# Altium schematic symbol library OOLITEV8_0_2-DEV-V1_1_17_Library.SchLib: 269 symbols (part 10 of 12)
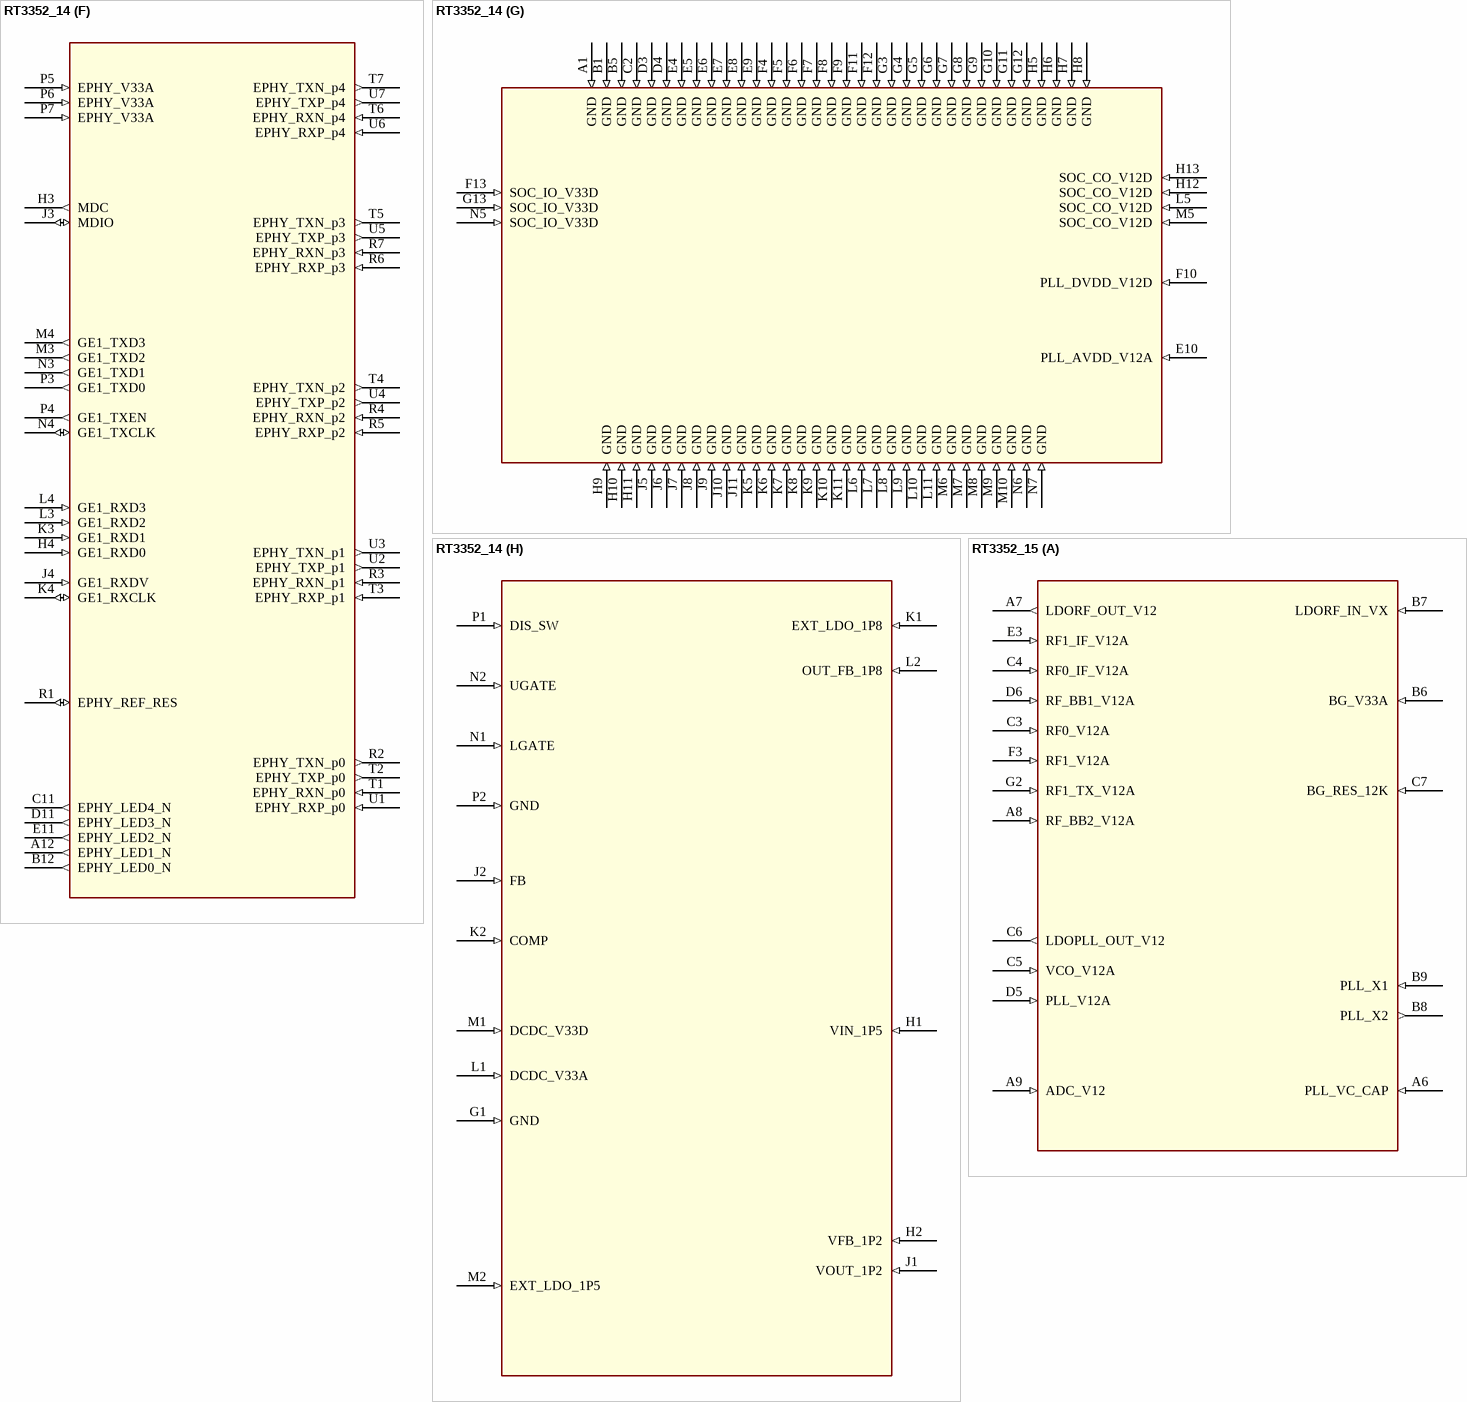
[diagram p147: symbols RT3352_14 to RT3352_15]

## RT3352_14
designator U?
part A pins: A6 PLL_VC_CAP (in), A7 LDORF_OUT_V12 (out), A8 RF_BB2_V12A (in), A9 ADC_V12 (in), B6 BG_V33A (in), B7 LDORF_IN_VX (in), B8 PLL_X2 (out), B9 PLL_X1 (in), C3 RF0_V12A (in), C4 RF0_IF_V12A (in), C5 VCO_V12A (in), C6 LDOPLL_OUT_V12 (out), C7 BG_RES_12K (in), D5 PLL_V12A (in), D6 RF_BB1_V12A (in), E3 RF1_IF_V12A (in), F3 RF1_V12A (in), G2 RF1_TX_V12A (in)
part B pins: A2 RF0_PA_OUTN (out), A3 RF0_PA_OUTP (out), A4 RF0_2G_INN (in), A5 RF0_2G_INP (in), A10 LNA_PE_G1 (out), A11 ANT_TRNB (out), B2 RF0_PA_V33N (in), B3 RF0_PA_V33P (in), B4 RF0_PA1_V33A (in), B10 LNA_PE_G0 (out), B11 ANT_TRN (out), C1 RF1_2G_INP (in), C8 BASE_TRX_IP (io), C9 BASE_TRX_IN (io), C10 PA_PE_G1 (out), D1 RF1_2G_INN (in), D2 RF1_PA_V33A (in), D7 RF_TSSI_IN (in), D8 BASE_TRX_QP (io), D9 BASE_TRX_QN (io), D10 PA_PE_G0 (out), D13 WLAN_LED_N (out), E1 RF1_PA_OUTP (out), E2 RF1_PA_V33P (in), F1 RF1_PA_OUTN (out), F2 RF1_PA_V33N (in)
part C pins: H15 MD0 (io), H16 MD1 (io), H17 MD2 (io), J12 DDR_IOC_V12D (in), J13 DDR_IOC_V12D (in), J14 MD3 (io), J15 MDQM0 (io), J16 MDQS0 (io), J17 MD6 (io), K12 DDR_IO_V33D (in), K13 DDR_IO_V33D (in), K14 MD8 (io), K15 MD7 (io), K16 MD5 (io), K17 MD4 (io), L12 DDR_IOL_V33D (in), L13 DDR_IOL_V33D (in), L14 MD13 (io), L15 MD10 (io), L16 MD11 (io), L17 MD9 (io), M11 DDR_IO_V33D (in), M12 DDR_IOR_V09D (in), M13 MD15 (io), M14 MD12 (io), M15 MD14 (io), M16 MDQS1 (io), M17 MDQM1 (io), N8 DDR_IO_V33D (in), N9 DDR_IO_V33D (in), N10 DDR_IO_V33D (in), N11 DDR_IO_V33D (in), N12 DDR_IOR_V09D (in), N13 MA0 (io), N14 MA3 (io), N15 MA8 (io), N16 MA10 (io), N17 MA13 (io), P8 MD31 (io), P9 MDQS3 (io), P10 MD22 (io), P11 MDQM2 (io), P12 MD16 (io), P13 MODT (io), P14 MA6 (io), P15 MA4 (io), P16 MA5 (io), P17 MA12 (io), R8 MD30 (io), R9 MD27 (io), R10 MD23 (io), R11 MDQS2 (io), R12 MD17 (io), R13 MCKE (io), R14 MCAS_N (io), R15 MA2 (io), R16 MA7 (io), R17 MA11 (io), T8 MD29 (io), T9 MDQM3 (io), T10 MD24 (io), T11 MD20 (io), T12 MD18 (io), T13 MCK_N (io), T14 MRAS_N (io), T15 MBA0 (io), T16 MA1 (io), T17 MA9 (io), U8 MD28 (io), U9 MD25 (io), U10 MD26 (io), U11 MD21 (io), U12 MD19 (io), U13 MCK_P (io), U14 MWE_N (io), U15 MBA1 (io), U16 MBA2 (io), U17 MCS_N (io)
part D pins: A13 JTAG_TMS (in), A14 SPI_MISO (in), A15 SPI_CS0 (out), A16 TXD (out), A17 RTS_N (out), B13 JTAG_TCLK (in), B14 SPI_MOSI (out), B15 SPI_CLK (out), B16 DTR_N (out), B17 DCD_N (io), C12 GPIO0 (io), C13 JTAG_TRST_N (in), C14 SPI_CS1 (out), C15 DSR_N (io), C16 CTS_N (io), D12 JTAG_TDO (out), D14 RIN (io), D15 RXD (io), E12 JTAG_TDI (in), E13 PORST_N (in), G15 RXD2 (in), G16 TXD2 (out), G17 I2C_SCLK (io), H14 I2C_SD (out)
part E pins: C17 UPHY1_PADP (io), D16 UPHY1_ID (io), D17 UPHY1_PADM (io), E14 UPHY_VDDL_V12D (in), E15 UPHY1_VBUS (io), E16 UPHY1_VRES (io), E17 UPHY0_PADP (io), F14 UPHY_VDDA_V33A (in), F15 UPHY0_VBUS (io), F16 UPHY0_VRES (io), F17 UPHY0_PADM (io), G14 UPHY0_ID (io)
part F pins: A12 EPHY_LED1_N (out), B12 EPHY_LED0_N (out), C11 EPHY_LED4_N (out), D11 EPHY_LED3_N (out), E11 EPHY_LED2_N (out), H3 MDC (out), H4 GE1_RXD0 (in), J3 MDIO (io), J4 GE1_RXDV (in), K3 GE1_RXD1 (in), K4 GE1_RXCLK (io), L3 GE1_RXD2 (in), L4 GE1_RXD3 (in), M3 GE1_TXD2 (out), M4 GE1_TXD3 (out), N3 GE1_TXD1 (out), N4 GE1_TXCLK (io), P3 GE1_TXD0 (out), P4 GE1_TXEN (out), P5 EPHY_V33A (in), P6 EPHY_V33A (in), P7 EPHY_V33A (in), R1 EPHY_REF_RES (io), R2 EPHY_TXN_p0 (out), R3 EPHY_RXN_p1 (in), R4 EPHY_RXN_p2 (in), R5 EPHY_RXP_p2 (in), R6 EPHY_RXP_p3 (in), R7 EPHY_RXN_p3 (in), T1 EPHY_RXN_p0 (in), T2 EPHY_TXP_p0 (out), T3 EPHY_RXP_p1 (in), T4 EPHY_TXN_p2 (out), T5 EPHY_TXN_p3 (out), T6 EPHY_RXN_p4 (in), T7 EPHY_TXN_p4 (out), U1 EPHY_RXP_p0 (in), U2 EPHY_TXP_p1 (out), U3 EPHY_TXN_p1 (out), U4 EPHY_TXP_p2 (out), U5 EPHY_TXP_p3 (out), U6 EPHY_RXP_p4 (in), U7 EPHY_TXP_p4 (out)
part G pins: A1 GND (in), B1 GND (in), B5 GND (in), C2 GND (in), D3 GND (in), D4 GND (in), E4 GND (in), E5 GND (in), E6 GND (in), E7 GND (in), E8 GND (in), E9 GND (in), E10 PLL_AVDD_V12A (in), F4 GND (in), F5 GND (in), F6 GND (in), F7 GND (in), F8 GND (in), F9 GND (in), F10 PLL_DVDD_V12D (in), F11 GND (in), F12 GND (in), F13 SOC_IO_V33D (in), G3 GND (in), G4 GND (in), G5 GND (in), G6 GND (in), G7 GND (in), G8 GND (in), G9 GND (in), G10 GND (in), G11 GND (in), G12 GND (in), G13 SOC_IO_V33D (in), H5 GND (in), H6 GND (in), H7 GND (in), H8 GND (in), H9 GND (in), H10 GND (in), H11 GND (in), H12 SOC_CO_V12D (in), H13 SOC_CO_V12D (in), J5 GND (in), J6 GND (in), J7 GND (in), J8 GND (in), J9 GND (in), J10 GND (in), J11 GND (in), K5 GND (in), K6 GND (in), K7 GND (in), K8 GND (in), K9 GND (in), K10 GND (in), K11 GND (in), L5 SOC_CO_V12D (in), L6 GND (in), L7 GND (in), L8 GND (in), L9 GND (in), L10 GND (in), L11 GND (in), M5 SOC_CO_V12D (in), M6 GND (in), M7 GND (in), M8 GND (in), M9 GND (in), M10 GND (in), N5 SOC_IO_V33D (in), N6 GND (in), N7 GND (in)
part H pins: G1 GND (in), H1 VIN_1P5 (in), H2 VFB_1P2 (in), J1 VOUT_1P2 (in), J2 FB (in), K1 EXT_LDO_1P8 (in), K2 COMP (in), L1 DCDC_V33A (in), L2 OUT_FB_1P8 (in), M1 DCDC_V33D (in), M2 EXT_LDO_1P5 (in), N1 LGATE (in), N2 UGATE (in), P1 DIS_SW (in), P2 GND (in)

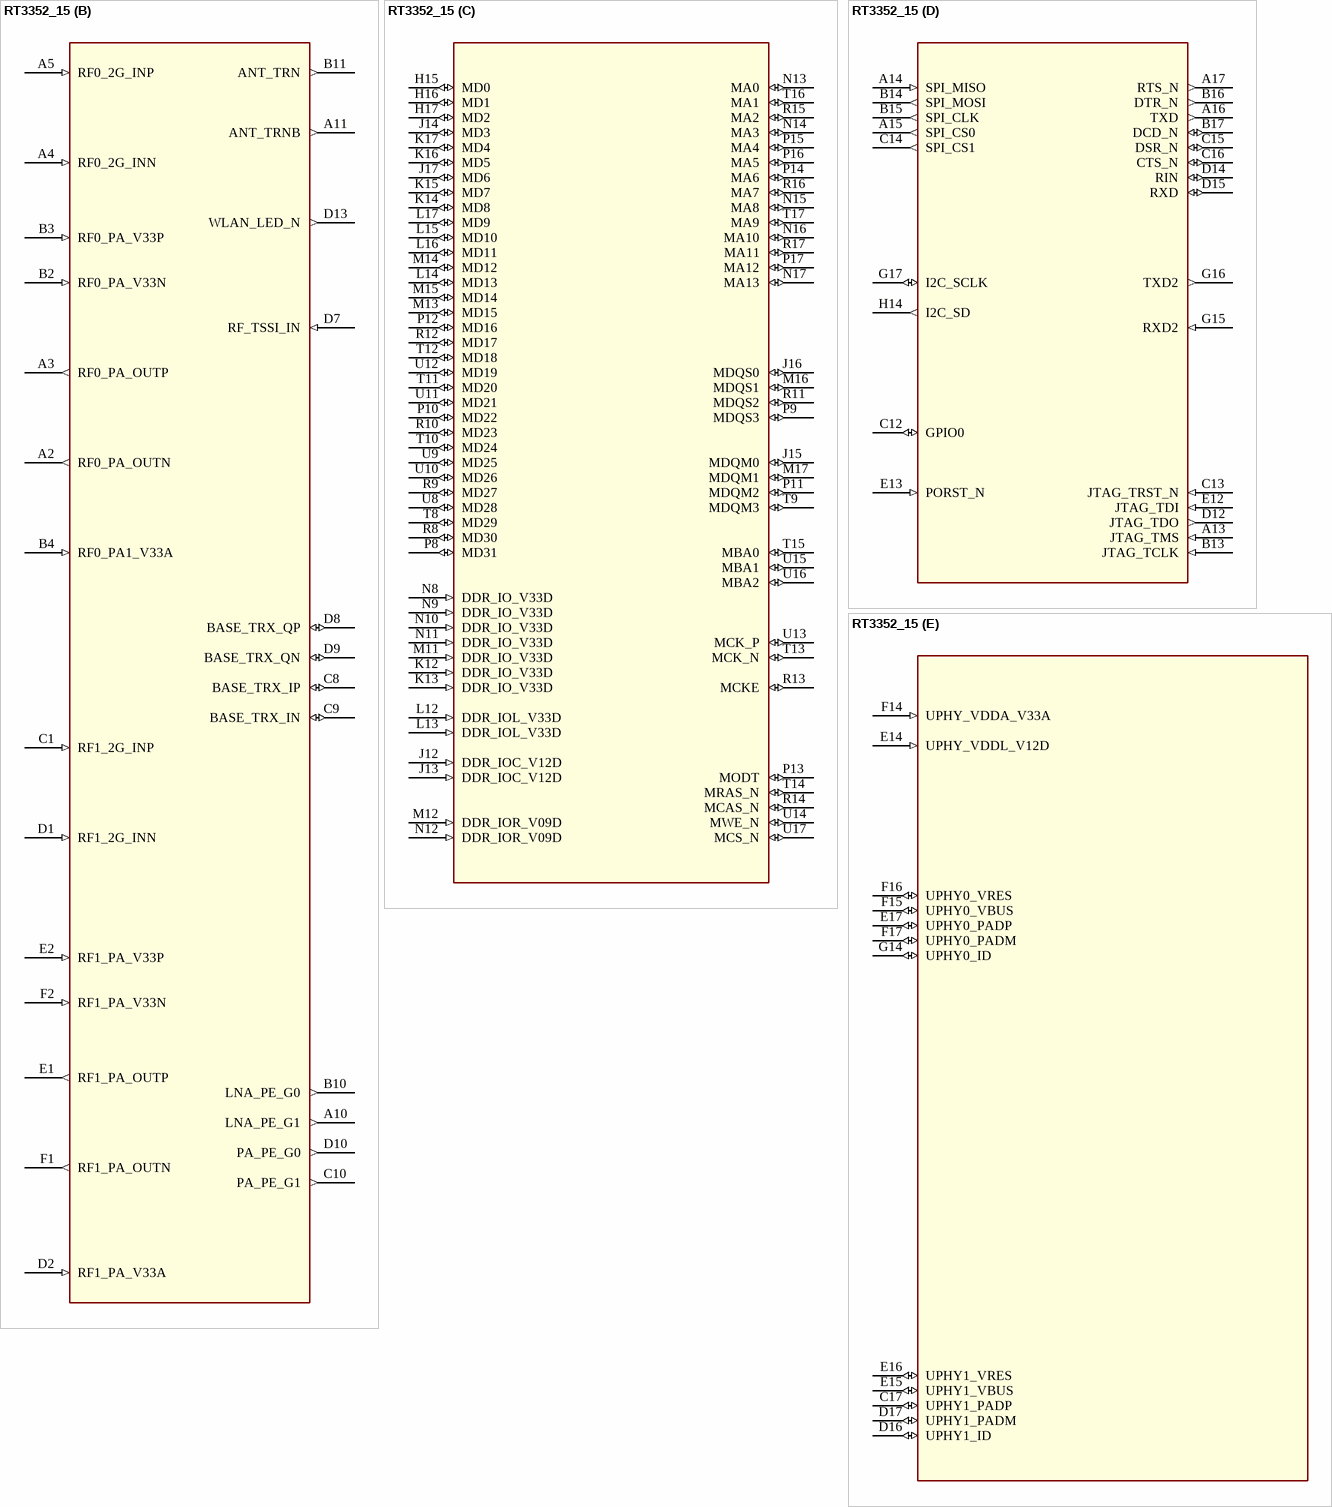
[diagram p112: symbol RT3352_15]

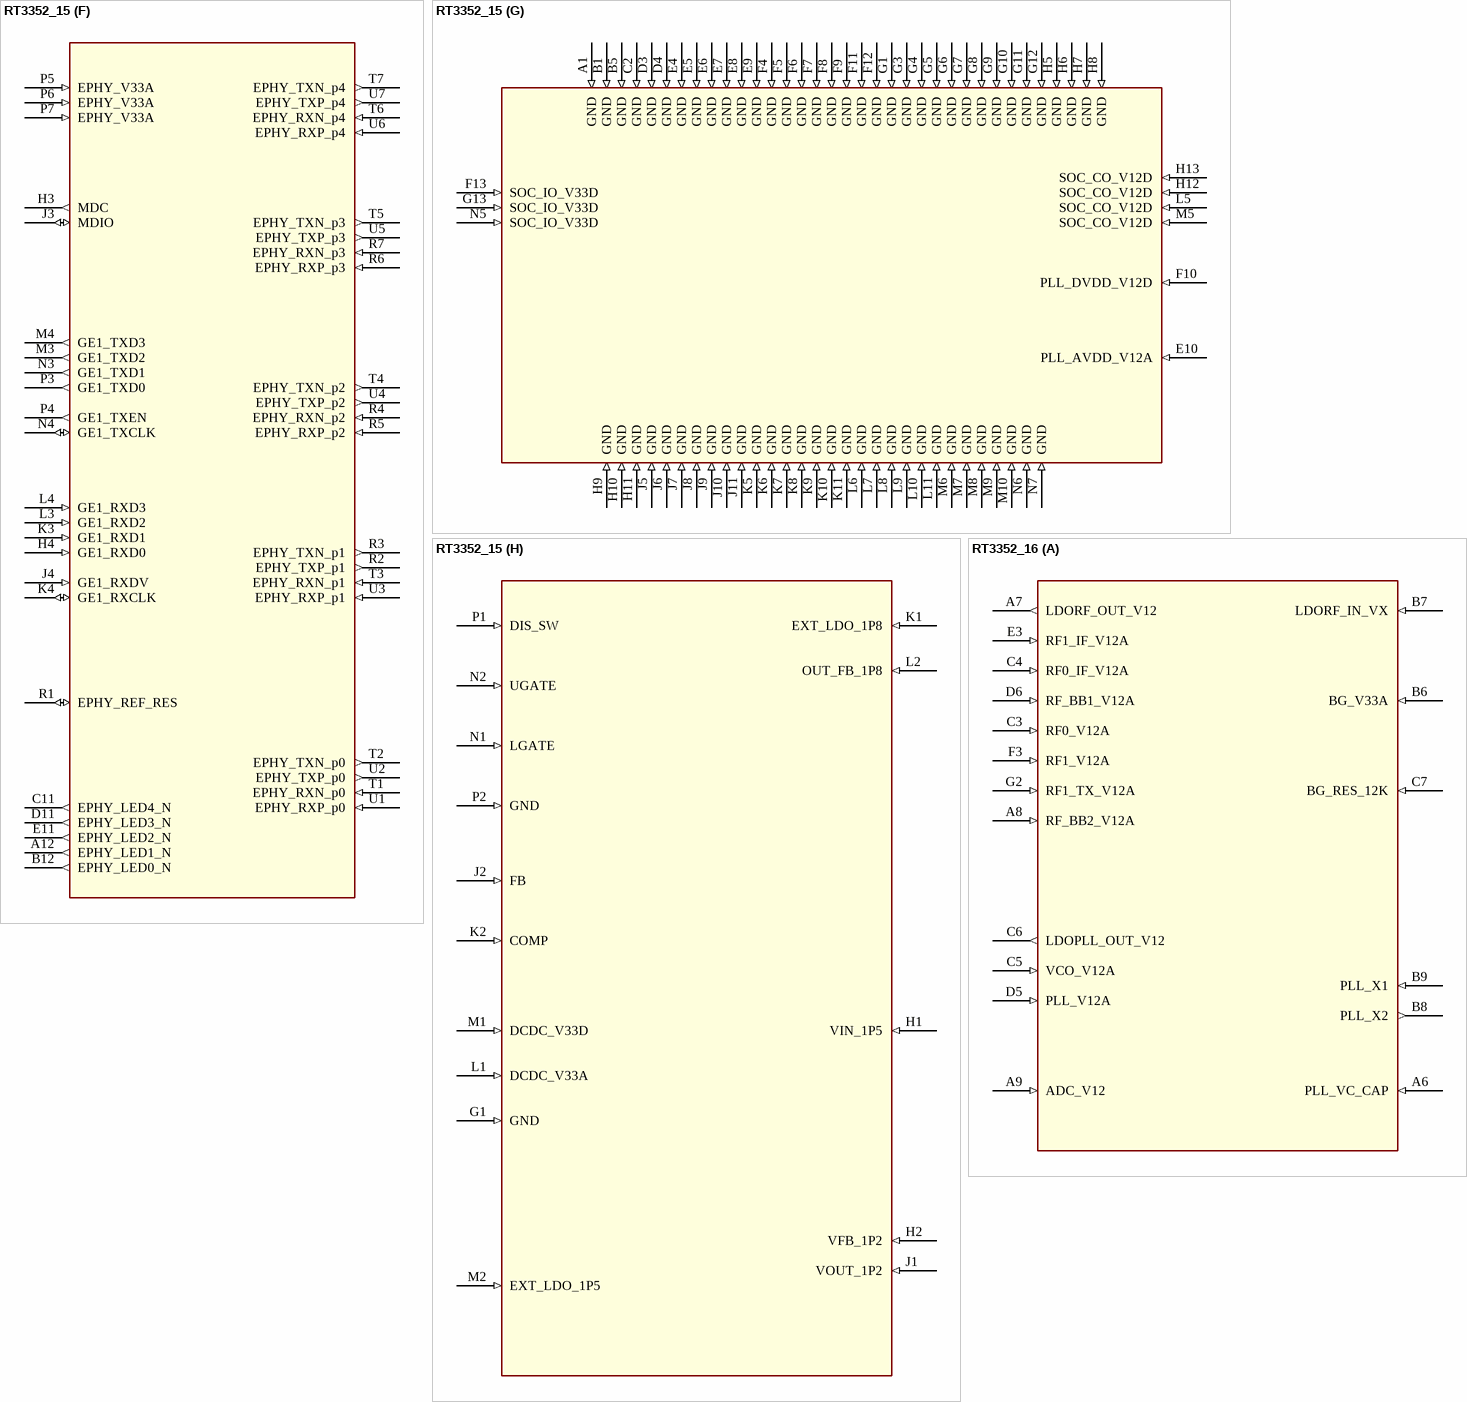
[diagram p113: symbols RT3352_15 to RT3352_16]

## RT3352_15
designator U?
part A pins: A6 PLL_VC_CAP (in), A7 LDORF_OUT_V12 (out), A8 RF_BB2_V12A (in), A9 ADC_V12 (in), B6 BG_V33A (in), B7 LDORF_IN_VX (in), B8 PLL_X2 (out), B9 PLL_X1 (in), C3 RF0_V12A (in), C4 RF0_IF_V12A (in), C5 VCO_V12A (in), C6 LDOPLL_OUT_V12 (out), C7 BG_RES_12K (in), D5 PLL_V12A (in), D6 RF_BB1_V12A (in), E3 RF1_IF_V12A (in), F3 RF1_V12A (in), G2 RF1_TX_V12A (in)
part B pins: A2 RF0_PA_OUTN (out), A3 RF0_PA_OUTP (out), A4 RF0_2G_INN (in), A5 RF0_2G_INP (in), A10 LNA_PE_G1 (out), A11 ANT_TRNB (out), B2 RF0_PA_V33N (in), B3 RF0_PA_V33P (in), B4 RF0_PA1_V33A (in), B10 LNA_PE_G0 (out), B11 ANT_TRN (out), C1 RF1_2G_INP (in), C8 BASE_TRX_IP (io), C9 BASE_TRX_IN (io), C10 PA_PE_G1 (out), D1 RF1_2G_INN (in), D2 RF1_PA_V33A (in), D7 RF_TSSI_IN (in), D8 BASE_TRX_QP (io), D9 BASE_TRX_QN (io), D10 PA_PE_G0 (out), D13 WLAN_LED_N (out), E1 RF1_PA_OUTP (out), E2 RF1_PA_V33P (in), F1 RF1_PA_OUTN (out), F2 RF1_PA_V33N (in)
part C pins: H15 MD0 (io), H16 MD1 (io), H17 MD2 (io), J12 DDR_IOC_V12D (in), J13 DDR_IOC_V12D (in), J14 MD3 (io), J15 MDQM0 (io), J16 MDQS0 (io), J17 MD6 (io), K12 DDR_IO_V33D (in), K13 DDR_IO_V33D (in), K14 MD8 (io), K15 MD7 (io), K16 MD5 (io), K17 MD4 (io), L12 DDR_IOL_V33D (in), L13 DDR_IOL_V33D (in), L14 MD13 (io), L15 MD10 (io), L16 MD11 (io), L17 MD9 (io), M11 DDR_IO_V33D (in), M12 DDR_IOR_V09D (in), M13 MD15 (io), M14 MD12 (io), M15 MD14 (io), M16 MDQS1 (io), M17 MDQM1 (io), N8 DDR_IO_V33D (in), N9 DDR_IO_V33D (in), N10 DDR_IO_V33D (in), N11 DDR_IO_V33D (in), N12 DDR_IOR_V09D (in), N13 MA0 (io), N14 MA3 (io), N15 MA8 (io), N16 MA10 (io), N17 MA13 (io), P8 MD31 (io), P9 MDQS3 (io), P10 MD22 (io), P11 MDQM2 (io), P12 MD16 (io), P13 MODT (io), P14 MA6 (io), P15 MA4 (io), P16 MA5 (io), P17 MA12 (io), R8 MD30 (io), R9 MD27 (io), R10 MD23 (io), R11 MDQS2 (io), R12 MD17 (io), R13 MCKE (io), R14 MCAS_N (io), R15 MA2 (io), R16 MA7 (io), R17 MA11 (io), T8 MD29 (io), T9 MDQM3 (io), T10 MD24 (io), T11 MD20 (io), T12 MD18 (io), T13 MCK_N (io), T14 MRAS_N (io), T15 MBA0 (io), T16 MA1 (io), T17 MA9 (io), U8 MD28 (io), U9 MD25 (io), U10 MD26 (io), U11 MD21 (io), U12 MD19 (io), U13 MCK_P (io), U14 MWE_N (io), U15 MBA1 (io), U16 MBA2 (io), U17 MCS_N (io)
part D pins: A13 JTAG_TMS (in), A14 SPI_MISO (in), A15 SPI_CS0 (out), A16 TXD (out), A17 RTS_N (out), B13 JTAG_TCLK (in), B14 SPI_MOSI (out), B15 SPI_CLK (out), B16 DTR_N (out), B17 DCD_N (io), C12 GPIO0 (io), C13 JTAG_TRST_N (in), C14 SPI_CS1 (out), C15 DSR_N (io), C16 CTS_N (io), D12 JTAG_TDO (out), D14 RIN (io), D15 RXD (io), E12 JTAG_TDI (in), E13 PORST_N (in), G15 RXD2 (in), G16 TXD2 (out), G17 I2C_SCLK (io), H14 I2C_SD (out)
part E pins: C17 UPHY1_PADP (io), D16 UPHY1_ID (io), D17 UPHY1_PADM (io), E14 UPHY_VDDL_V12D (in), E15 UPHY1_VBUS (io), E16 UPHY1_VRES (io), E17 UPHY0_PADP (io), F14 UPHY_VDDA_V33A (in), F15 UPHY0_VBUS (io), F16 UPHY0_VRES (io), F17 UPHY0_PADM (io), G14 UPHY0_ID (io)
part F pins: A12 EPHY_LED1_N (out), B12 EPHY_LED0_N (out), C11 EPHY_LED4_N (out), D11 EPHY_LED3_N (out), E11 EPHY_LED2_N (out), H3 MDC (out), H4 GE1_RXD0 (in), J3 MDIO (io), J4 GE1_RXDV (in), K3 GE1_RXD1 (in), K4 GE1_RXCLK (io), L3 GE1_RXD2 (in), L4 GE1_RXD3 (in), M3 GE1_TXD2 (out), M4 GE1_TXD3 (out), N3 GE1_TXD1 (out), N4 GE1_TXCLK (io), P3 GE1_TXD0 (out), P4 GE1_TXEN (out), P5 EPHY_V33A (in), P6 EPHY_V33A (in), P7 EPHY_V33A (in), R1 EPHY_REF_RES (io), R2 EPHY_TXP_p1 (out), R3 EPHY_TXN_p1 (out), R4 EPHY_RXN_p2 (in), R5 EPHY_RXP_p2 (in), R6 EPHY_RXP_p3 (in), R7 EPHY_RXN_p3 (in), T1 EPHY_RXN_p0 (in), T2 EPHY_TXN_p0 (out), T3 EPHY_RXN_p1 (in), T4 EPHY_TXN_p2 (out), T5 EPHY_TXN_p3 (out), T6 EPHY_RXN_p4 (in), T7 EPHY_TXN_p4 (out), U1 EPHY_RXP_p0 (in), U2 EPHY_TXP_p0 (out), U3 EPHY_RXP_p1 (in), U4 EPHY_TXP_p2 (out), U5 EPHY_TXP_p3 (out), U6 EPHY_RXP_p4 (in), U7 EPHY_TXP_p4 (out)
part G pins: A1 GND (in), B1 GND (in), B5 GND (in), C2 GND (in), D3 GND (in), D4 GND (in), E4 GND (in), E5 GND (in), E6 GND (in), E7 GND (in), E8 GND (in), E9 GND (in), E10 PLL_AVDD_V12A (in), F4 GND (in), F5 GND (in), F6 GND (in), F7 GND (in), F8 GND (in), F9 GND (in), F10 PLL_DVDD_V12D (in), F11 GND (in), F12 GND (in), F13 SOC_IO_V33D (in), G1 GND (in), G3 GND (in), G4 GND (in), G5 GND (in), G6 GND (in), G7 GND (in), G8 GND (in), G9 GND (in), G10 GND (in), G11 GND (in), G12 GND (in), G13 SOC_IO_V33D (in), H5 GND (in), H6 GND (in), H7 GND (in), H8 GND (in), H9 GND (in), H10 GND (in), H11 GND (in), H12 SOC_CO_V12D (in), H13 SOC_CO_V12D (in), J5 GND (in), J6 GND (in), J7 GND (in), J8 GND (in), J9 GND (in), J10 GND (in), J11 GND (in), K5 GND (in), K6 GND (in), K7 GND (in), K8 GND (in), K9 GND (in), K10 GND (in), K11 GND (in), L5 SOC_CO_V12D (in), L6 GND (in), L7 GND (in), L8 GND (in), L9 GND (in), L10 GND (in), L11 GND (in), M5 SOC_CO_V12D (in), M6 GND (in), M7 GND (in), M8 GND (in), M9 GND (in), M10 GND (in), N5 SOC_IO_V33D (in), N6 GND (in), N7 GND (in)
part H pins: G1 GND (in), H1 VIN_1P5 (in), H2 VFB_1P2 (in), J1 VOUT_1P2 (in), J2 FB (in), K1 EXT_LDO_1P8 (in), K2 COMP (in), L1 DCDC_V33A (in), L2 OUT_FB_1P8 (in), M1 DCDC_V33D (in), M2 EXT_LDO_1P5 (in), N1 LGATE (in), N2 UGATE (in), P1 DIS_SW (in), P2 GND (in)

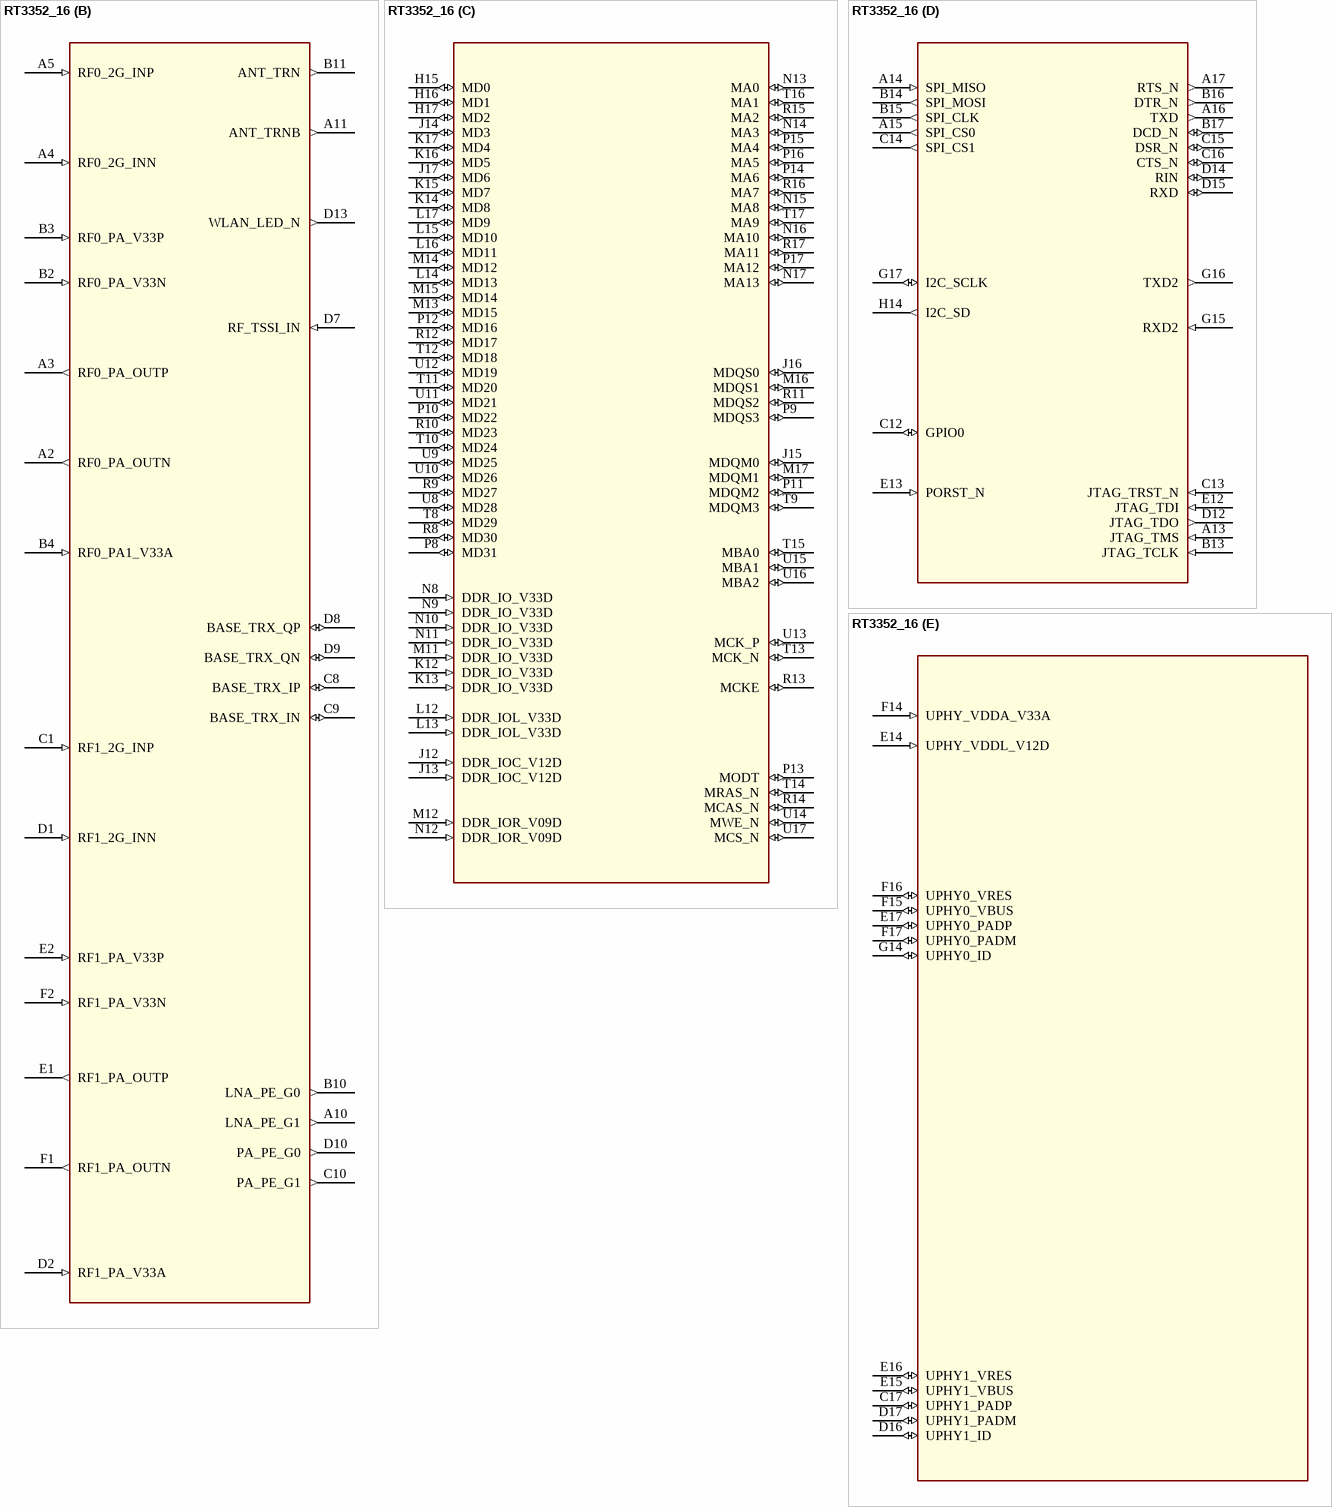
[diagram p114: symbol RT3352_16]

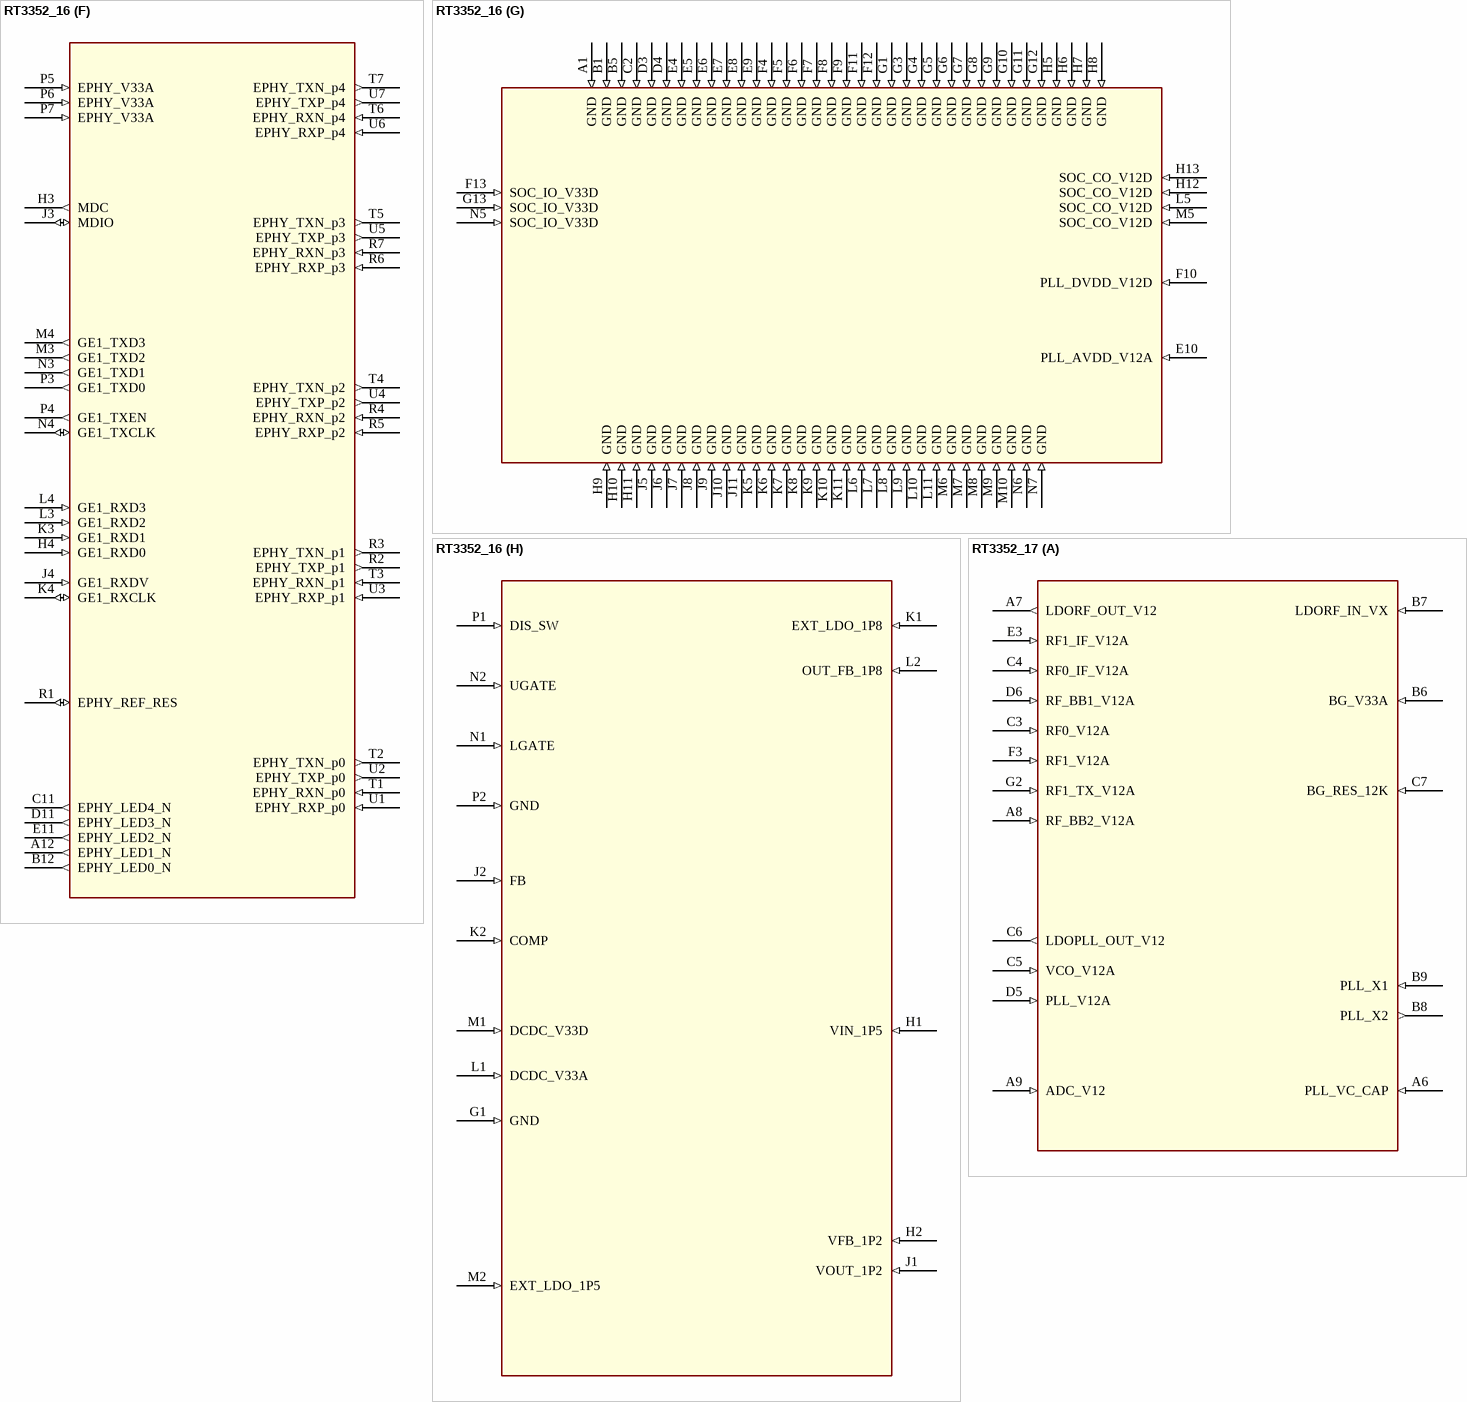
[diagram p115: symbols RT3352_16 to RT3352_17]

## RT3352_16
designator U?
part A pins: A6 PLL_VC_CAP (in), A7 LDORF_OUT_V12 (out), A8 RF_BB2_V12A (in), A9 ADC_V12 (in), B6 BG_V33A (in), B7 LDORF_IN_VX (in), B8 PLL_X2 (out), B9 PLL_X1 (in), C3 RF0_V12A (in), C4 RF0_IF_V12A (in), C5 VCO_V12A (in), C6 LDOPLL_OUT_V12 (out), C7 BG_RES_12K (in), D5 PLL_V12A (in), D6 RF_BB1_V12A (in), E3 RF1_IF_V12A (in), F3 RF1_V12A (in), G2 RF1_TX_V12A (in)
part B pins: A2 RF0_PA_OUTN (out), A3 RF0_PA_OUTP (out), A4 RF0_2G_INN (in), A5 RF0_2G_INP (in), A10 LNA_PE_G1 (out), A11 ANT_TRNB (out), B2 RF0_PA_V33N (in), B3 RF0_PA_V33P (in), B4 RF0_PA1_V33A (in), B10 LNA_PE_G0 (out), B11 ANT_TRN (out), C1 RF1_2G_INP (in), C8 BASE_TRX_IP (io), C9 BASE_TRX_IN (io), C10 PA_PE_G1 (out), D1 RF1_2G_INN (in), D2 RF1_PA_V33A (in), D7 RF_TSSI_IN (in), D8 BASE_TRX_QP (io), D9 BASE_TRX_QN (io), D10 PA_PE_G0 (out), D13 WLAN_LED_N (out), E1 RF1_PA_OUTP (out), E2 RF1_PA_V33P (in), F1 RF1_PA_OUTN (out), F2 RF1_PA_V33N (in)
part C pins: H15 MD0 (io), H16 MD1 (io), H17 MD2 (io), J12 DDR_IOC_V12D (in), J13 DDR_IOC_V12D (in), J14 MD3 (io), J15 MDQM0 (io), J16 MDQS0 (io), J17 MD6 (io), K12 DDR_IO_V33D (in), K13 DDR_IO_V33D (in), K14 MD8 (io), K15 MD7 (io), K16 MD5 (io), K17 MD4 (io), L12 DDR_IOL_V33D (in), L13 DDR_IOL_V33D (in), L14 MD13 (io), L15 MD10 (io), L16 MD11 (io), L17 MD9 (io), M11 DDR_IO_V33D (in), M12 DDR_IOR_V09D (in), M13 MD15 (io), M14 MD12 (io), M15 MD14 (io), M16 MDQS1 (io), M17 MDQM1 (io), N8 DDR_IO_V33D (in), N9 DDR_IO_V33D (in), N10 DDR_IO_V33D (in), N11 DDR_IO_V33D (in), N12 DDR_IOR_V09D (in), N13 MA0 (io), N14 MA3 (io), N15 MA8 (io), N16 MA10 (io), N17 MA13 (io), P8 MD31 (io), P9 MDQS3 (io), P10 MD22 (io), P11 MDQM2 (io), P12 MD16 (io), P13 MODT (io), P14 MA6 (io), P15 MA4 (io), P16 MA5 (io), P17 MA12 (io), R8 MD30 (io), R9 MD27 (io), R10 MD23 (io), R11 MDQS2 (io), R12 MD17 (io), R13 MCKE (io), R14 MCAS_N (io), R15 MA2 (io), R16 MA7 (io), R17 MA11 (io), T8 MD29 (io), T9 MDQM3 (io), T10 MD24 (io), T11 MD20 (io), T12 MD18 (io), T13 MCK_N (io), T14 MRAS_N (io), T15 MBA0 (io), T16 MA1 (io), T17 MA9 (io), U8 MD28 (io), U9 MD25 (io), U10 MD26 (io), U11 MD21 (io), U12 MD19 (io), U13 MCK_P (io), U14 MWE_N (io), U15 MBA1 (io), U16 MBA2 (io), U17 MCS_N (io)
part D pins: A13 JTAG_TMS (in), A14 SPI_MISO (in), A15 SPI_CS0 (out), A16 TXD (out), A17 RTS_N (out), B13 JTAG_TCLK (in), B14 SPI_MOSI (out), B15 SPI_CLK (out), B16 DTR_N (out), B17 DCD_N (io), C12 GPIO0 (io), C13 JTAG_TRST_N (in), C14 SPI_CS1 (out), C15 DSR_N (io), C16 CTS_N (io), D12 JTAG_TDO (out), D14 RIN (io), D15 RXD (io), E12 JTAG_TDI (in), E13 PORST_N (in), G15 RXD2 (in), G16 TXD2 (out), G17 I2C_SCLK (io), H14 I2C_SD (out)
part E pins: C17 UPHY1_PADP (io), D16 UPHY1_ID (io), D17 UPHY1_PADM (io), E14 UPHY_VDDL_V12D (in), E15 UPHY1_VBUS (io), E16 UPHY1_VRES (io), E17 UPHY0_PADP (io), F14 UPHY_VDDA_V33A (in), F15 UPHY0_VBUS (io), F16 UPHY0_VRES (io), F17 UPHY0_PADM (io), G14 UPHY0_ID (io)
part F pins: A12 EPHY_LED1_N (out), B12 EPHY_LED0_N (out), C11 EPHY_LED4_N (out), D11 EPHY_LED3_N (out), E11 EPHY_LED2_N (out), H3 MDC (out), H4 GE1_RXD0 (in), J3 MDIO (io), J4 GE1_RXDV (in), K3 GE1_RXD1 (in), K4 GE1_RXCLK (io), L3 GE1_RXD2 (in), L4 GE1_RXD3 (in), M3 GE1_TXD2 (out), M4 GE1_TXD3 (out), N3 GE1_TXD1 (out), N4 GE1_TXCLK (io), P3 GE1_TXD0 (out), P4 GE1_TXEN (out), P5 EPHY_V33A (in), P6 EPHY_V33A (in), P7 EPHY_V33A (in), R1 EPHY_REF_RES (io), R2 EPHY_TXP_p1 (out), R3 EPHY_TXN_p1 (out), R4 EPHY_RXN_p2 (in), R5 EPHY_RXP_p2 (in), R6 EPHY_RXP_p3 (in), R7 EPHY_RXN_p3 (in), T1 EPHY_RXN_p0 (in), T2 EPHY_TXN_p0 (out), T3 EPHY_RXN_p1 (in), T4 EPHY_TXN_p2 (out), T5 EPHY_TXN_p3 (out), T6 EPHY_RXN_p4 (in), T7 EPHY_TXN_p4 (out), U1 EPHY_RXP_p0 (in), U2 EPHY_TXP_p0 (out), U3 EPHY_RXP_p1 (in), U4 EPHY_TXP_p2 (out), U5 EPHY_TXP_p3 (out), U6 EPHY_RXP_p4 (in), U7 EPHY_TXP_p4 (out)
part G pins: A1 GND (in), B1 GND (in), B5 GND (in), C2 GND (in), D3 GND (in), D4 GND (in), E4 GND (in), E5 GND (in), E6 GND (in), E7 GND (in), E8 GND (in), E9 GND (in), E10 PLL_AVDD_V12A (in), F4 GND (in), F5 GND (in), F6 GND (in), F7 GND (in), F8 GND (in), F9 GND (in), F10 PLL_DVDD_V12D (in), F11 GND (in), F12 GND (in), F13 SOC_IO_V33D (in), G1 GND (in), G3 GND (in), G4 GND (in), G5 GND (in), G6 GND (in), G7 GND (in), G8 GND (in), G9 GND (in), G10 GND (in), G11 GND (in), G12 GND (in), G13 SOC_IO_V33D (in), H5 GND (in), H6 GND (in), H7 GND (in), H8 GND (in), H9 GND (in), H10 GND (in), H11 GND (in), H12 SOC_CO_V12D (in), H13 SOC_CO_V12D (in), J5 GND (in), J6 GND (in), J7 GND (in), J8 GND (in), J9 GND (in), J10 GND (in), J11 GND (in), K5 GND (in), K6 GND (in), K7 GND (in), K8 GND (in), K9 GND (in), K10 GND (in), K11 GND (in), L5 SOC_CO_V12D (in), L6 GND (in), L7 GND (in), L8 GND (in), L9 GND (in), L10 GND (in), L11 GND (in), M5 SOC_CO_V12D (in), M6 GND (in), M7 GND (in), M8 GND (in), M9 GND (in), M10 GND (in), N5 SOC_IO_V33D (in), N6 GND (in), N7 GND (in)
part H pins: G1 GND (in), H1 VIN_1P5 (in), H2 VFB_1P2 (in), J1 VOUT_1P2 (in), J2 FB (in), K1 EXT_LDO_1P8 (in), K2 COMP (in), L1 DCDC_V33A (in), L2 OUT_FB_1P8 (in), M1 DCDC_V33D (in), M2 EXT_LDO_1P5 (in), N1 LGATE (in), N2 UGATE (in), P1 DIS_SW (in), P2 GND (in)

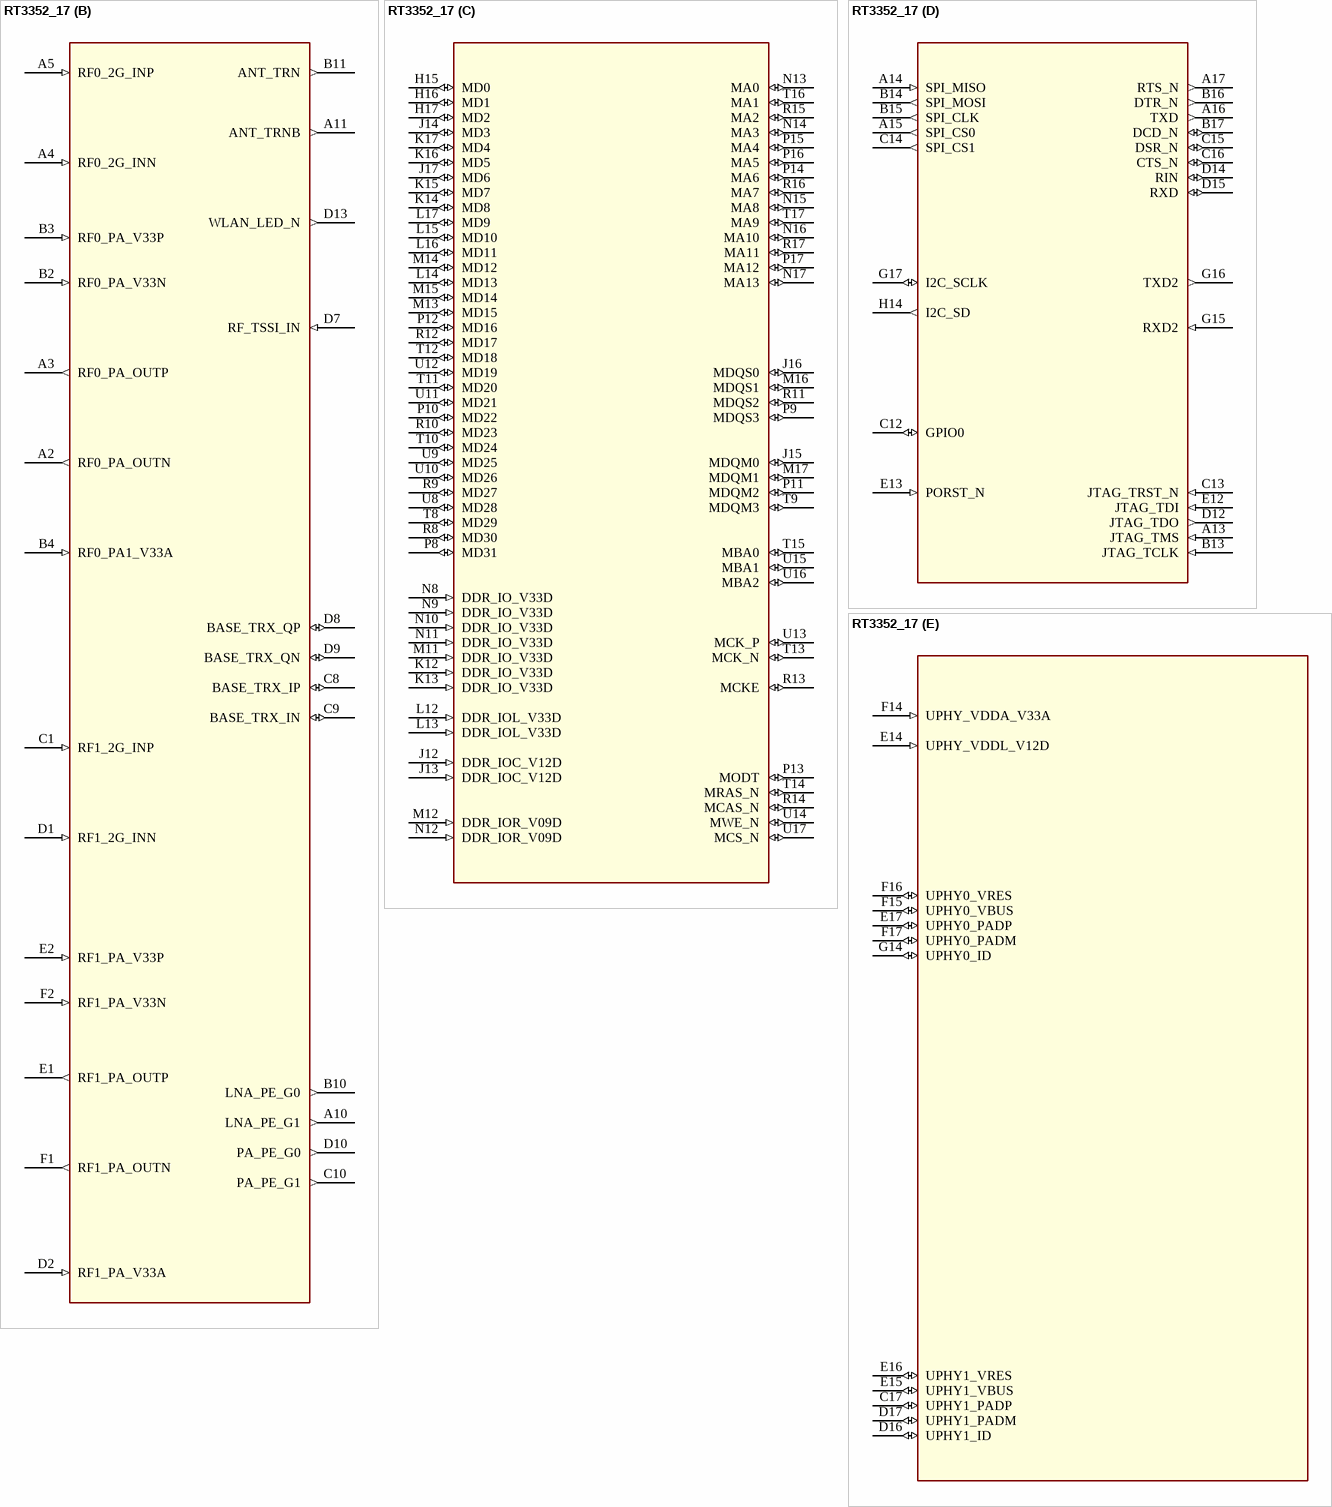
[diagram p116: symbol RT3352_17]

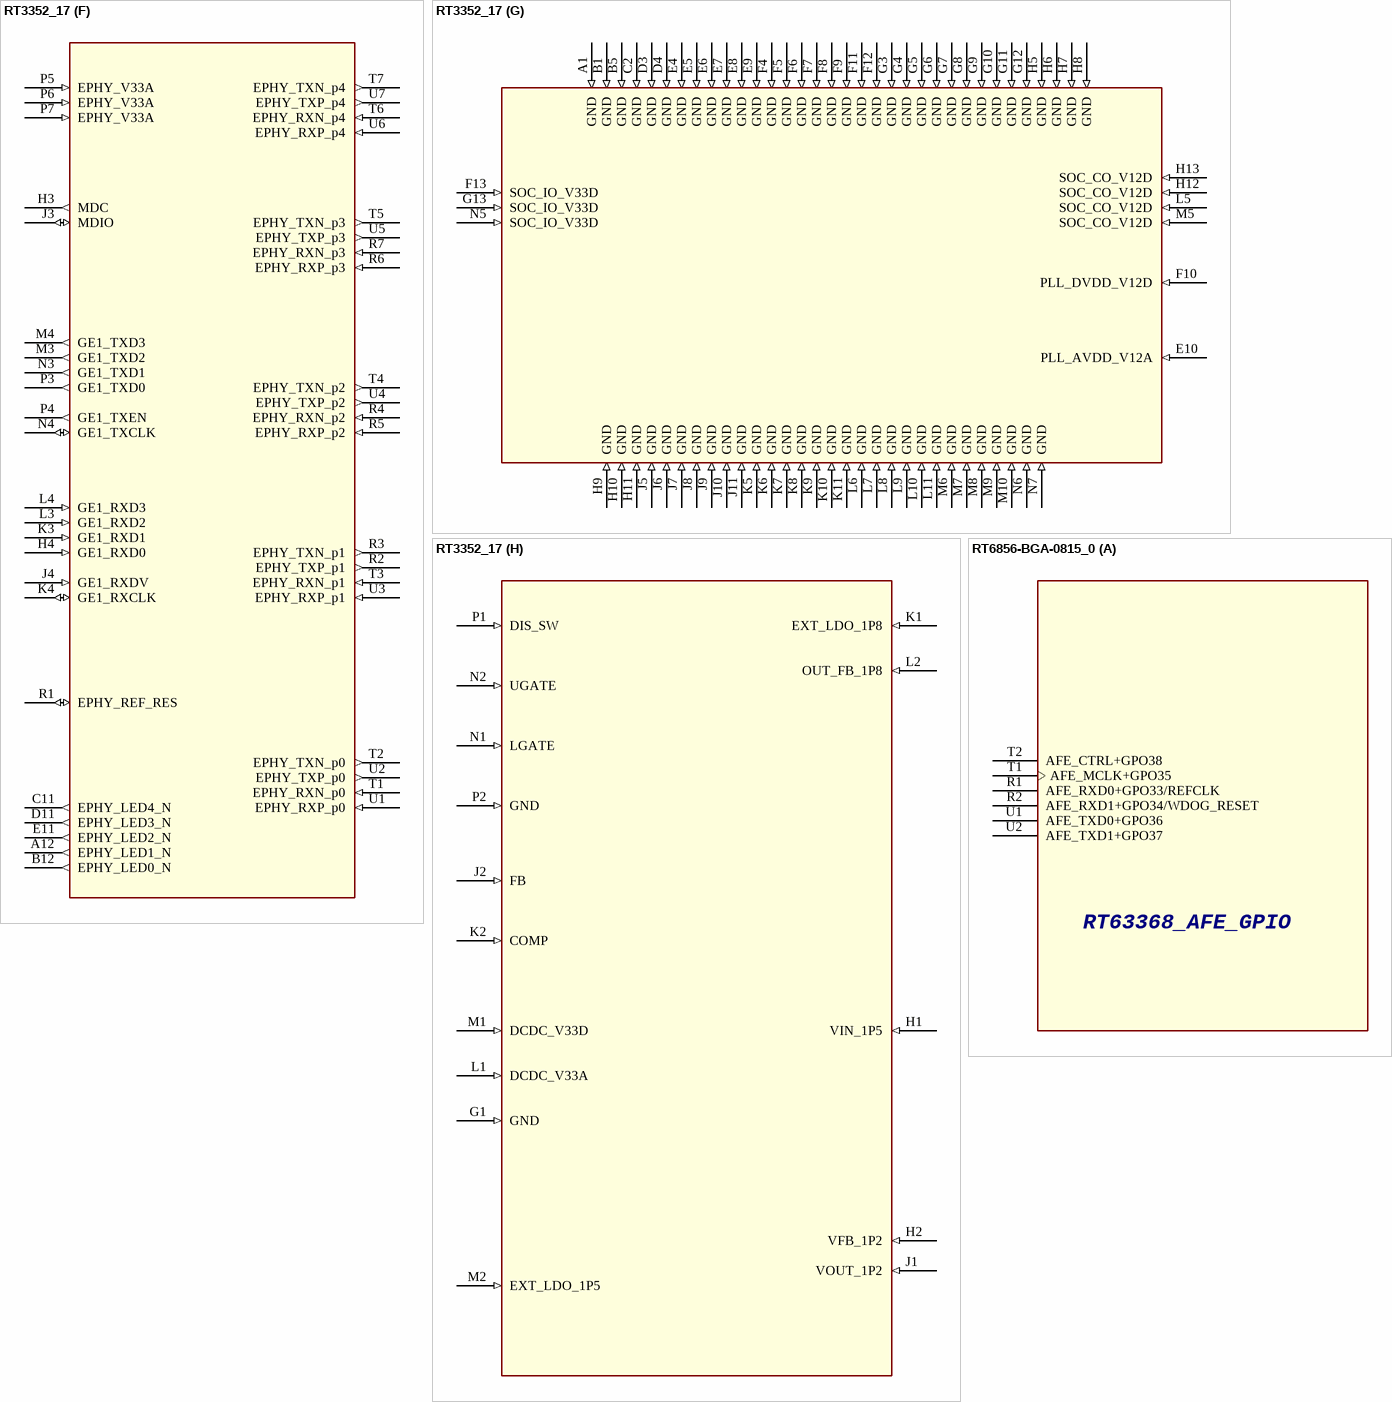
[diagram p117: symbols RT3352_17 to RT6856-BGA-0815_0]

## RT3352_17
designator U?
part A pins: A6 PLL_VC_CAP (in), A7 LDORF_OUT_V12 (out), A8 RF_BB2_V12A (in), A9 ADC_V12 (in), B6 BG_V33A (in), B7 LDORF_IN_VX (in), B8 PLL_X2 (out), B9 PLL_X1 (in), C3 RF0_V12A (in), C4 RF0_IF_V12A (in), C5 VCO_V12A (in), C6 LDOPLL_OUT_V12 (out), C7 BG_RES_12K (in), D5 PLL_V12A (in), D6 RF_BB1_V12A (in), E3 RF1_IF_V12A (in), F3 RF1_V12A (in), G2 RF1_TX_V12A (in)
part B pins: A2 RF0_PA_OUTN (out), A3 RF0_PA_OUTP (out), A4 RF0_2G_INN (in), A5 RF0_2G_INP (in), A10 LNA_PE_G1 (out), A11 ANT_TRNB (out), B2 RF0_PA_V33N (in), B3 RF0_PA_V33P (in), B4 RF0_PA1_V33A (in), B10 LNA_PE_G0 (out), B11 ANT_TRN (out), C1 RF1_2G_INP (in), C8 BASE_TRX_IP (io), C9 BASE_TRX_IN (io), C10 PA_PE_G1 (out), D1 RF1_2G_INN (in), D2 RF1_PA_V33A (in), D7 RF_TSSI_IN (in), D8 BASE_TRX_QP (io), D9 BASE_TRX_QN (io), D10 PA_PE_G0 (out), D13 WLAN_LED_N (out), E1 RF1_PA_OUTP (out), E2 RF1_PA_V33P (in), F1 RF1_PA_OUTN (out), F2 RF1_PA_V33N (in)
part C pins: H15 MD0 (io), H16 MD1 (io), H17 MD2 (io), J12 DDR_IOC_V12D (in), J13 DDR_IOC_V12D (in), J14 MD3 (io), J15 MDQM0 (io), J16 MDQS0 (io), J17 MD6 (io), K12 DDR_IO_V33D (in), K13 DDR_IO_V33D (in), K14 MD8 (io), K15 MD7 (io), K16 MD5 (io), K17 MD4 (io), L12 DDR_IOL_V33D (in), L13 DDR_IOL_V33D (in), L14 MD13 (io), L15 MD10 (io), L16 MD11 (io), L17 MD9 (io), M11 DDR_IO_V33D (in), M12 DDR_IOR_V09D (in), M13 MD15 (io), M14 MD12 (io), M15 MD14 (io), M16 MDQS1 (io), M17 MDQM1 (io), N8 DDR_IO_V33D (in), N9 DDR_IO_V33D (in), N10 DDR_IO_V33D (in), N11 DDR_IO_V33D (in), N12 DDR_IOR_V09D (in), N13 MA0 (io), N14 MA3 (io), N15 MA8 (io), N16 MA10 (io), N17 MA13 (io), P8 MD31 (io), P9 MDQS3 (io), P10 MD22 (io), P11 MDQM2 (io), P12 MD16 (io), P13 MODT (io), P14 MA6 (io), P15 MA4 (io), P16 MA5 (io), P17 MA12 (io), R8 MD30 (io), R9 MD27 (io), R10 MD23 (io), R11 MDQS2 (io), R12 MD17 (io), R13 MCKE (io), R14 MCAS_N (io), R15 MA2 (io), R16 MA7 (io), R17 MA11 (io), T8 MD29 (io), T9 MDQM3 (io), T10 MD24 (io), T11 MD20 (io), T12 MD18 (io), T13 MCK_N (io), T14 MRAS_N (io), T15 MBA0 (io), T16 MA1 (io), T17 MA9 (io), U8 MD28 (io), U9 MD25 (io), U10 MD26 (io), U11 MD21 (io), U12 MD19 (io), U13 MCK_P (io), U14 MWE_N (io), U15 MBA1 (io), U16 MBA2 (io), U17 MCS_N (io)
part D pins: A13 JTAG_TMS (in), A14 SPI_MISO (in), A15 SPI_CS0 (out), A16 TXD (out), A17 RTS_N (out), B13 JTAG_TCLK (in), B14 SPI_MOSI (out), B15 SPI_CLK (out), B16 DTR_N (out), B17 DCD_N (io), C12 GPIO0 (io), C13 JTAG_TRST_N (in), C14 SPI_CS1 (out), C15 DSR_N (io), C16 CTS_N (io), D12 JTAG_TDO (out), D14 RIN (io), D15 RXD (io), E12 JTAG_TDI (in), E13 PORST_N (in), G15 RXD2 (in), G16 TXD2 (out), G17 I2C_SCLK (io), H14 I2C_SD (out)
part E pins: C17 UPHY1_PADP (io), D16 UPHY1_ID (io), D17 UPHY1_PADM (io), E14 UPHY_VDDL_V12D (in), E15 UPHY1_VBUS (io), E16 UPHY1_VRES (io), E17 UPHY0_PADP (io), F14 UPHY_VDDA_V33A (in), F15 UPHY0_VBUS (io), F16 UPHY0_VRES (io), F17 UPHY0_PADM (io), G14 UPHY0_ID (io)
part F pins: A12 EPHY_LED1_N (out), B12 EPHY_LED0_N (out), C11 EPHY_LED4_N (out), D11 EPHY_LED3_N (out), E11 EPHY_LED2_N (out), H3 MDC (out), H4 GE1_RXD0 (in), J3 MDIO (io), J4 GE1_RXDV (in), K3 GE1_RXD1 (in), K4 GE1_RXCLK (io), L3 GE1_RXD2 (in), L4 GE1_RXD3 (in), M3 GE1_TXD2 (out), M4 GE1_TXD3 (out), N3 GE1_TXD1 (out), N4 GE1_TXCLK (io), P3 GE1_TXD0 (out), P4 GE1_TXEN (out), P5 EPHY_V33A (in), P6 EPHY_V33A (in), P7 EPHY_V33A (in), R1 EPHY_REF_RES (io), R2 EPHY_TXP_p1 (out), R3 EPHY_TXN_p1 (out), R4 EPHY_RXN_p2 (in), R5 EPHY_RXP_p2 (in), R6 EPHY_RXP_p3 (in), R7 EPHY_RXN_p3 (in), T1 EPHY_RXN_p0 (in), T2 EPHY_TXN_p0 (out), T3 EPHY_RXN_p1 (in), T4 EPHY_TXN_p2 (out), T5 EPHY_TXN_p3 (out), T6 EPHY_RXN_p4 (in), T7 EPHY_TXN_p4 (out), U1 EPHY_RXP_p0 (in), U2 EPHY_TXP_p0 (out), U3 EPHY_RXP_p1 (in), U4 EPHY_TXP_p2 (out), U5 EPHY_TXP_p3 (out), U6 EPHY_RXP_p4 (in), U7 EPHY_TXP_p4 (out)
part G pins: A1 GND (in), B1 GND (in), B5 GND (in), C2 GND (in), D3 GND (in), D4 GND (in), E4 GND (in), E5 GND (in), E6 GND (in), E7 GND (in), E8 GND (in), E9 GND (in), E10 PLL_AVDD_V12A (in), F4 GND (in), F5 GND (in), F6 GND (in), F7 GND (in), F8 GND (in), F9 GND (in), F10 PLL_DVDD_V12D (in), F11 GND (in), F12 GND (in), F13 SOC_IO_V33D (in), G3 GND (in), G4 GND (in), G5 GND (in), G6 GND (in), G7 GND (in), G8 GND (in), G9 GND (in), G10 GND (in), G11 GND (in), G12 GND (in), G13 SOC_IO_V33D (in), H5 GND (in), H6 GND (in), H7 GND (in), H8 GND (in), H9 GND (in), H10 GND (in), H11 GND (in), H12 SOC_CO_V12D (in), H13 SOC_CO_V12D (in), J5 GND (in), J6 GND (in), J7 GND (in), J8 GND (in), J9 GND (in), J10 GND (in), J11 GND (in), K5 GND (in), K6 GND (in), K7 GND (in), K8 GND (in), K9 GND (in), K10 GND (in), K11 GND (in), L5 SOC_CO_V12D (in), L6 GND (in), L7 GND (in), L8 GND (in), L9 GND (in), L10 GND (in), L11 GND (in), M5 SOC_CO_V12D (in), M6 GND (in), M7 GND (in), M8 GND (in), M9 GND (in), M10 GND (in), N5 SOC_IO_V33D (in), N6 GND (in), N7 GND (in)
part H pins: G1 GND (in), H1 VIN_1P5 (in), H2 VFB_1P2 (in), J1 VOUT_1P2 (in), J2 FB (in), K1 EXT_LDO_1P8 (in), K2 COMP (in), L1 DCDC_V33A (in), L2 OUT_FB_1P8 (in), M1 DCDC_V33D (in), M2 EXT_LDO_1P5 (in), N1 LGATE (in), N2 UGATE (in), P1 DIS_SW (in), P2 GND (in)

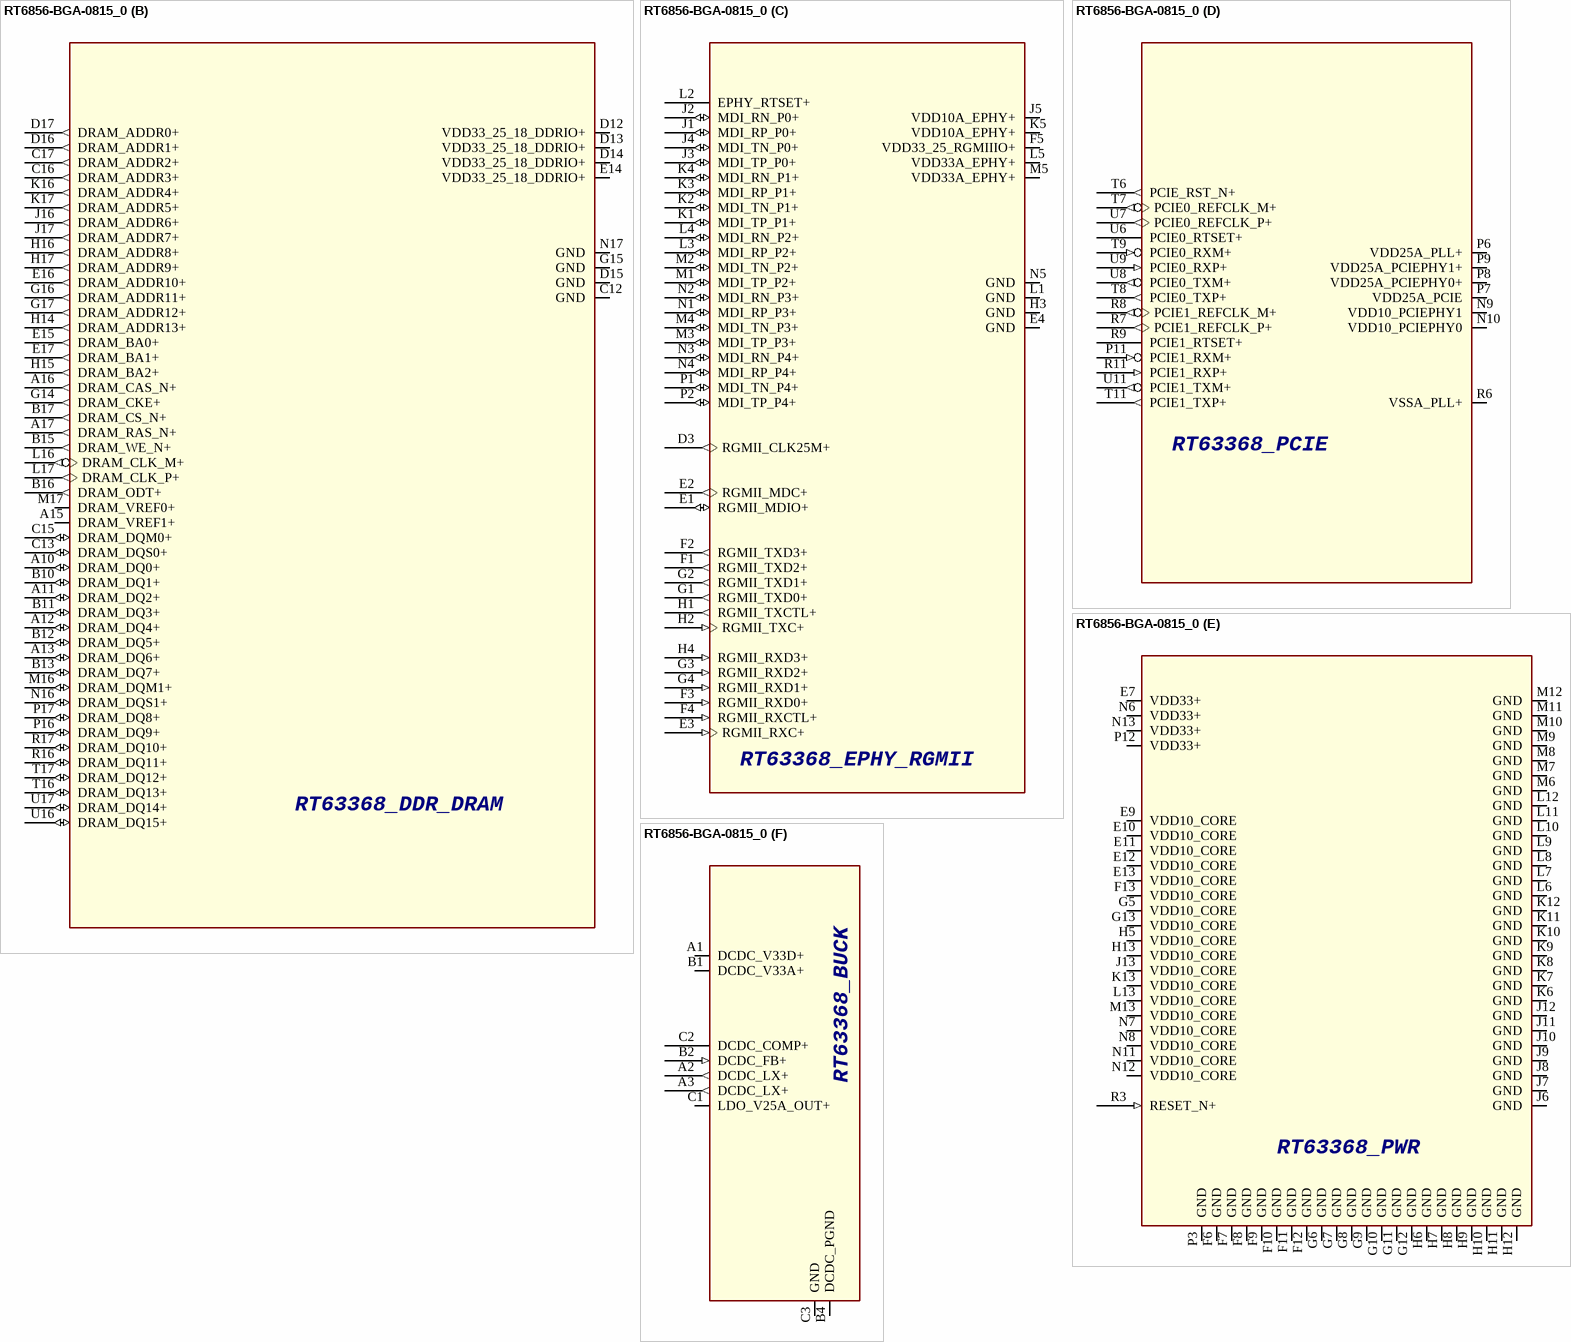
[diagram p118: symbol RT6856-BGA-0815_0]

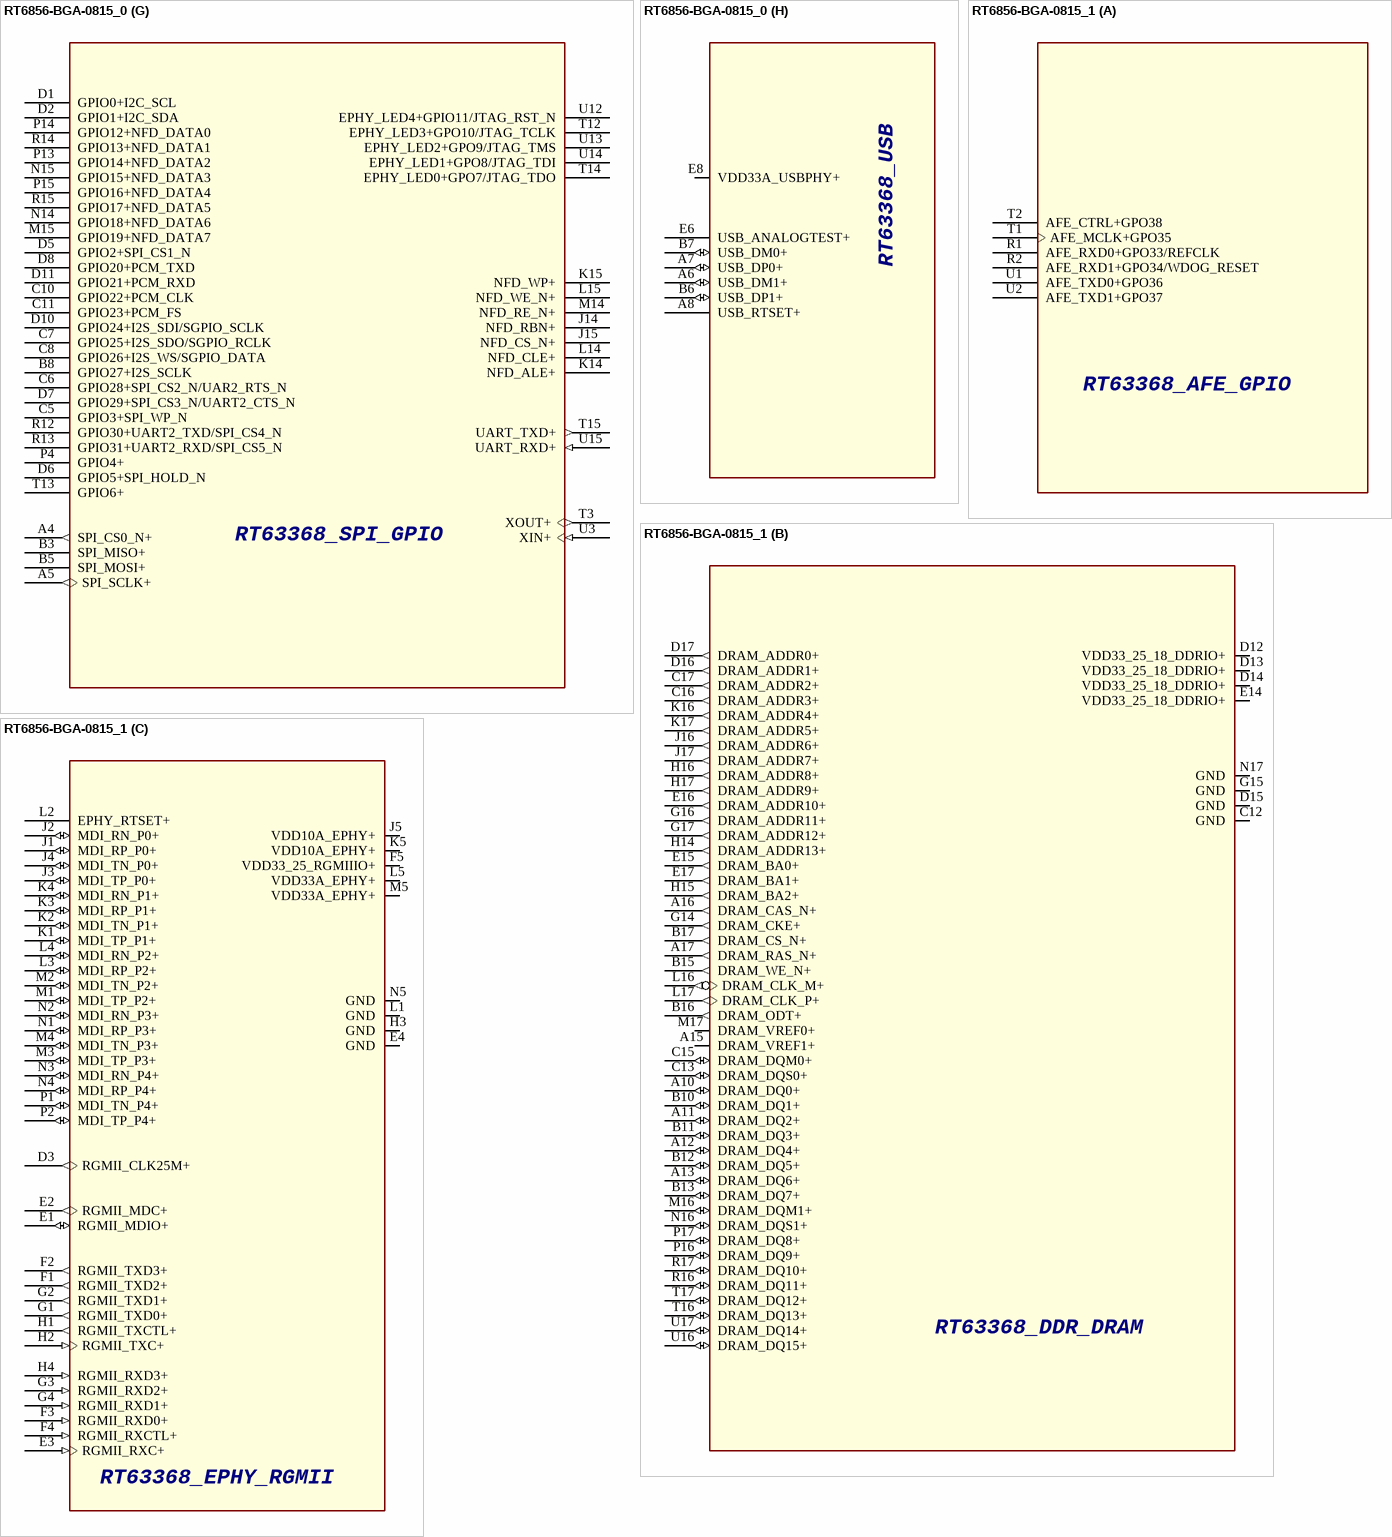
[diagram p119: symbols RT6856-BGA-0815_0 to RT6856-BGA-0815_1]

## RT6856-BGA-0815_0
designator U?
SPLIT_INST: TRUE; SWAP_INFO: (S1+S2+S3+S4+S5+S6+S7+S8)
part A pins: R1 AFE_RXD0+GPO33/REFCLK, R2 AFE_RXD1+GPO34/WDOG_RESET, T1 AFE_MCLK+GPO35, T2 AFE_CTRL+GPO38, U1 AFE_TXD0+GPO36, U2 AFE_TXD1+GPO37
part B pins: A10 DRAM_DQ0+ (io), A11 DRAM_DQ2+ (io), A12 DRAM_DQ4+ (io), A13 DRAM_DQ6+ (io), A15 DRAM_VREF1+ (power), A16 DRAM_CAS_N+ (out), A17 DRAM_RAS_N+ (out), B10 DRAM_DQ1+ (io), B11 DRAM_DQ3+ (io), B12 DRAM_DQ5+ (io), B13 DRAM_DQ7+ (io), B15 DRAM_WE_N+ (out), B16 DRAM_ODT+ (out), B17 DRAM_CS_N+ (out), C12 GND (power), C13 DRAM_DQS0+ (io), C15 DRAM_DQM0+ (io), C16 DRAM_ADDR3+ (out), C17 DRAM_ADDR2+ (out), D12 VDD33_25_18_DDRIO+ (power), D13 VDD33_25_18_DDRIO+ (power), D14 VDD33_25_18_DDRIO+ (power), D15 GND (power), D16 DRAM_ADDR1+ (out), D17 DRAM_ADDR0+ (out), E14 VDD33_25_18_DDRIO+ (power), E15 DRAM_BA0+ (out), E16 DRAM_ADDR10+ (out), E17 DRAM_BA1+ (out), G14 DRAM_CKE+ (out), G15 GND (power), G16 DRAM_ADDR11+ (out), G17 DRAM_ADDR12+ (out), H14 DRAM_ADDR13+ (out), H15 DRAM_BA2+ (out), H16 DRAM_ADDR8+ (out), H17 DRAM_ADDR9+ (out), J16 DRAM_ADDR6+ (out), J17 DRAM_ADDR7+ (out), K16 DRAM_ADDR4+ (out), K17 DRAM_ADDR5+ (out), L16 DRAM_CLK_M+ (out), L17 DRAM_CLK_P+ (out), M16 DRAM_DQM1+ (io), M17 DRAM_VREF0+ (power), N16 DRAM_DQS1+ (io), N17 GND (power), P16 DRAM_DQ9+ (io), P17 DRAM_DQ8+ (io), R16 DRAM_DQ11+ (io), R17 DRAM_DQ10+ (io), T16 DRAM_DQ13+ (io), T17 DRAM_DQ12+ (io), U16 DRAM_DQ15+ (io), U17 DRAM_DQ14+ (io)
part C pins: D3 RGMII_CLK25M+ (out), E1 RGMII_MDIO+ (io), E2 RGMII_MDC+ (out), E3 RGMII_RXC+ (in), E4 GND (power), F1 RGMII_TXD2+ (out), F2 RGMII_TXD3+ (out), F3 RGMII_RXD0+ (in), F4 RGMII_RXCTL+ (in), F5 VDD33_25_RGMIIIO+ (power), G1 RGMII_TXD0+ (out), G2 RGMII_TXD1+ (out), G3 RGMII_RXD2+ (in), G4 RGMII_RXD1+ (in), H1 RGMII_TXCTL+ (out), H2 RGMII_TXC+ (in), H3 GND (power), H4 RGMII_RXD3+ (in), J1 MDI_RP_P0+ (io), J2 MDI_RN_P0+ (io), J3 MDI_TP_P0+ (io), J4 MDI_TN_P0+ (io), J5 VDD10A_EPHY+ (power), K1 MDI_TP_P1+ (io), K2 MDI_TN_P1+ (io), K3 MDI_RP_P1+ (io), K4 MDI_RN_P1+ (io), K5 VDD10A_EPHY+ (power), L1 GND (power), L2 EPHY_RTSET+, L3 MDI_RP_P2+ (io), L4 MDI_RN_P2+ (io), L5 VDD33A_EPHY+ (power), M1 MDI_TP_P2+ (io), M2 MDI_TN_P2+ (io), M3 MDI_TP_P3+ (io), M4 MDI_TN_P3+ (io), M5 VDD33A_EPHY+ (power), N1 MDI_RP_P3+ (io), N2 MDI_RN_P3+ (io), N3 MDI_RN_P4+ (io), N4 MDI_RP_P4+ (io), N5 GND (power), P1 MDI_TN_P4+ (io), P2 MDI_TP_P4+ (io)
part D pins: N9 VDD10_PCIEPHY1 (power), N10 VDD10_PCIEPHY0 (power), P6 VDD25A_PLL+ (power), P7 VDD25A_PCIE (power), P8 VDD25A_PCIEPHY0+ (power), P9 VDD25A_PCIEPHY1+ (power), P11 PCIE1_RXM+ (in), R6 VSSA_PLL+ (power), R7 PCIE1_REFCLK_P+ (out), R8 PCIE1_REFCLK_M+ (out), R9 PCIE1_RTSET+, R11 PCIE1_RXP+ (in), T6 PCIE_RST_N+ (out), T7 PCIE0_REFCLK_M+ (out), T8 PCIE0_TXP+ (out), T9 PCIE0_RXM+ (in), T11 PCIE1_TXP+ (out), U6 PCIE0_RTSET+, U7 PCIE0_REFCLK_P+ (out), U8 PCIE0_TXM+ (out), U9 PCIE0_RXP+ (in), U11 PCIE1_TXM+ (out)
part E pins: E7 VDD33+ (power), E9 VDD10_CORE (power), E10 VDD10_CORE (power), E11 VDD10_CORE (power), E12 VDD10_CORE (power), E13 VDD10_CORE (power), F6 GND (power), F7 GND (power), F8 GND (power), F9 GND (power), F10 GND (power), F11 GND (power), F12 GND (power), F13 VDD10_CORE (power), G5 VDD10_CORE (power), G6 GND (power), G7 GND (power), G8 GND (power), G9 GND (power), G10 GND (power), G11 GND (power), G12 GND (power), G13 VDD10_CORE (power), H5 VDD10_CORE (power), H6 GND (power), H7 GND (power), H8 GND (power), H9 GND (power), H10 GND (power), H11 GND (power), H12 GND (power), H13 VDD10_CORE (power), J6 GND (power), J7 GND (power), J8 GND (power), J9 GND (power), J10 GND (power), J11 GND (power), J12 GND (power), J13 VDD10_CORE (power), K6 GND (power), K7 GND (power), K8 GND (power), K9 GND (power), K10 GND (power), K11 GND (power), K12 GND (power), K13 VDD10_CORE (power), L6 GND (power), L7 GND (power), L8 GND (power), L9 GND (power), L10 GND (power), L11 GND (power), L12 GND (power), L13 VDD10_CORE (power), M6 GND (power), M7 GND (power), M8 GND (power), M9 GND (power), M10 GND (power), M11 GND (power), M12 GND (power), M13 VDD10_CORE (power), N6 VDD33+ (power), N7 VDD10_CORE (power), N8 VDD10_CORE (power), N11 VDD10_CORE (power), N12 VDD10_CORE (power), N13 VDD33+ (power), P3 GND (power), P12 VDD33+ (power), R3 RESET_N+ (in)
part F pins: A1 DCDC_V33D+ (power), A2 DCDC_LX+ (out), A3 DCDC_LX+ (out), B1 DCDC_V33A+ (power), B2 DCDC_FB+ (in), B4 DCDC_PGND (power), C1 LDO_V25A_OUT+ (power), C2 DCDC_COMP+, C3 GND (power)
part G pins: A4 SPI_CS0_N+ (out), A5 SPI_SCLK+ (out), B3 SPI_MISO+, B5 SPI_MOSI+, B8 GPIO27+I2S_SCLK, C5 GPIO3+SPI_WP_N, C6 GPIO28+SPI_CS2_N/UAR2_RTS_N, C7 GPIO25+I2S_SDO/SGPIO_RCLK, C8 GPIO26+I2S_WS/SGPIO_DATA, C10 GPIO22+PCM_CLK, C11 GPIO23+PCM_FS, D1 GPIO0+I2C_SCL, D2 GPIO1+I2C_SDA, D5 GPIO2+SPI_CS1_N, D6 GPIO5+SPI_HOLD_N, D7 GPIO29+SPI_CS3_N/UART2_CTS_N, D8 GPIO20+PCM_TXD, D10 GPIO24+I2S_SDI/SGPIO_SCLK, D11 GPIO21+PCM_RXD, J14 NFD_RBN+, J15 NFD_CS_N+, K14 NFD_ALE+, K15 NFD_WP+, L14 NFD_CLE+, L15 NFD_WE_N+, M14 NFD_RE_N+, M15 GPIO19+NFD_DATA7, N14 GPIO18+NFD_DATA6, N15 GPIO15+NFD_DATA3, P4 GPIO4+, P13 GPIO14+NFD_DATA2, P14 GPIO12+NFD_DATA0, P15 GPIO16+NFD_DATA4, R12 GPIO30+UART2_TXD/SPI_CS4_N, R13 GPIO31+UART2_RXD/SPI_CS5_N, R14 GPIO13+NFD_DATA1, R15 GPIO17+NFD_DATA5, T3 XOUT+ (out), T12 EPHY_LED3+GPO10/JTAG_TCLK, T13 GPIO6+, T14 EPHY_LED0+GPO7/JTAG_TDO, T15 UART_TXD+ (out), U3 XIN+ (in), U12 EPHY_LED4+GPIO11/JTAG_RST_N, U13 EPHY_LED2+GPO9/JTAG_TMS, U14 EPHY_LED1+GPO8/JTAG_TDI, U15 UART_RXD+ (in)
part H pins: A6 USB_DM1+ (io), A7 USB_DP0+ (io), A8 USB_RTSET+, B6 USB_DP1+ (io), B7 USB_DM0+ (io), E6 USB_ANALOGTEST+, E8 VDD33A_USBPHY+ (power)
part A text: RT63368_AFE_GPIO
part B text: RT63368_DDR_DRAM
part C text: RT63368_EPHY_RGMII
part D text: RT63368_PCIE
part E text: RT63368_PWR
part F text: RT63368_BUCK
part G text: RT63368_SPI_GPIO
part H text: RT63368_USB

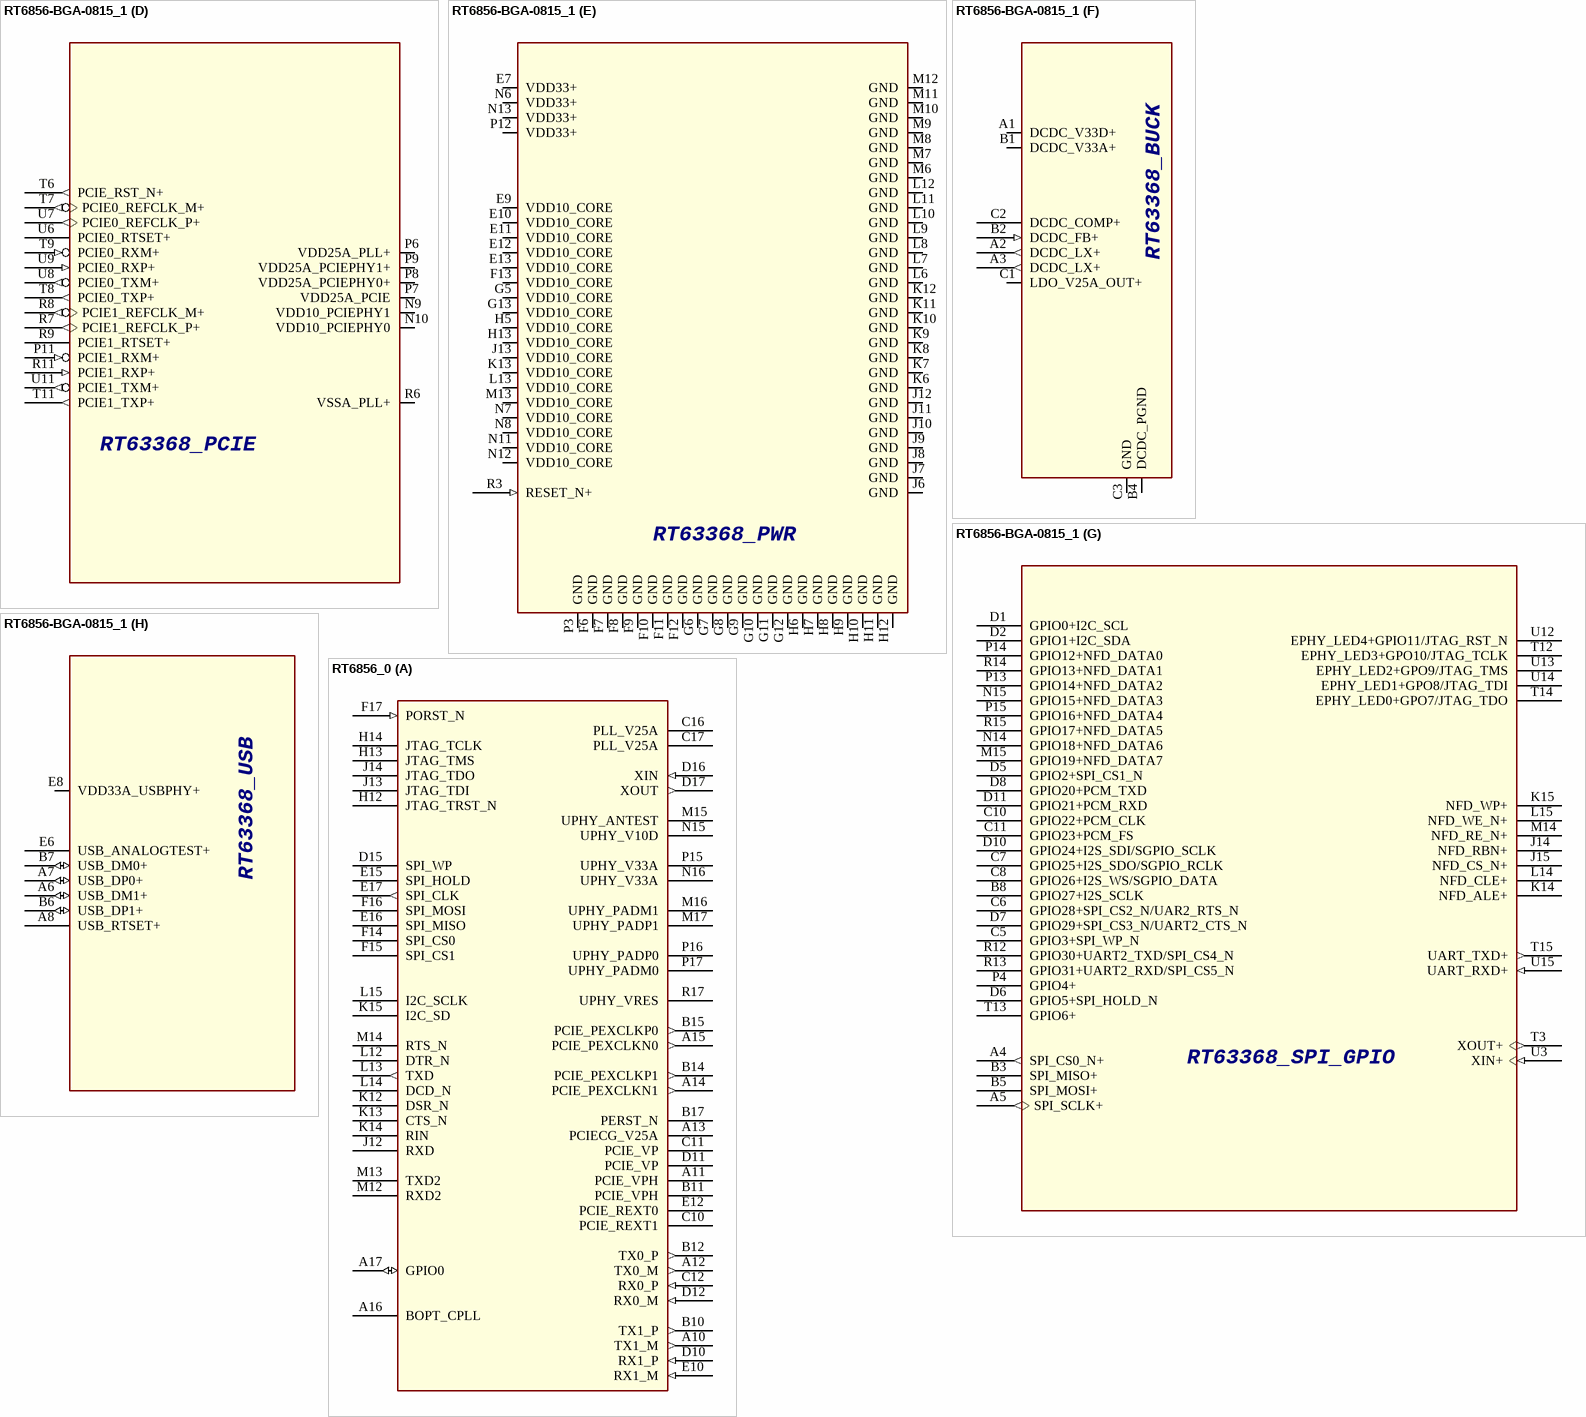
[diagram p120: symbols RT6856-BGA-0815_1 to RT6856_0]

## RT6856-BGA-0815_1
designator U?
SWAP_INFO: (S1+S2+S3+S4+S5+S6+S7+S8); SPLIT_INST: TRUE
footprint RT63368/BGA264/P0.65/12X12
part A pins: R1 AFE_RXD0+GPO33/REFCLK, R2 AFE_RXD1+GPO34/WDOG_RESET, T1 AFE_MCLK+GPO35, T2 AFE_CTRL+GPO38, U1 AFE_TXD0+GPO36, U2 AFE_TXD1+GPO37
part B pins: A10 DRAM_DQ0+ (io), A11 DRAM_DQ2+ (io), A12 DRAM_DQ4+ (io), A13 DRAM_DQ6+ (io), A15 DRAM_VREF1+ (power), A16 DRAM_CAS_N+ (out), A17 DRAM_RAS_N+ (out), B10 DRAM_DQ1+ (io), B11 DRAM_DQ3+ (io), B12 DRAM_DQ5+ (io), B13 DRAM_DQ7+ (io), B15 DRAM_WE_N+ (out), B16 DRAM_ODT+ (out), B17 DRAM_CS_N+ (out), C12 GND (power), C13 DRAM_DQS0+ (io), C15 DRAM_DQM0+ (io), C16 DRAM_ADDR3+ (out), C17 DRAM_ADDR2+ (out), D12 VDD33_25_18_DDRIO+ (power), D13 VDD33_25_18_DDRIO+ (power), D14 VDD33_25_18_DDRIO+ (power), D15 GND (power), D16 DRAM_ADDR1+ (out), D17 DRAM_ADDR0+ (out), E14 VDD33_25_18_DDRIO+ (power), E15 DRAM_BA0+ (out), E16 DRAM_ADDR10+ (out), E17 DRAM_BA1+ (out), G14 DRAM_CKE+ (out), G15 GND (power), G16 DRAM_ADDR11+ (out), G17 DRAM_ADDR12+ (out), H14 DRAM_ADDR13+ (out), H15 DRAM_BA2+ (out), H16 DRAM_ADDR8+ (out), H17 DRAM_ADDR9+ (out), J16 DRAM_ADDR6+ (out), J17 DRAM_ADDR7+ (out), K16 DRAM_ADDR4+ (out), K17 DRAM_ADDR5+ (out), L16 DRAM_CLK_M+ (out), L17 DRAM_CLK_P+ (out), M16 DRAM_DQM1+ (io), M17 DRAM_VREF0+ (power), N16 DRAM_DQS1+ (io), N17 GND (power), P16 DRAM_DQ9+ (io), P17 DRAM_DQ8+ (io), R16 DRAM_DQ11+ (io), R17 DRAM_DQ10+ (io), T16 DRAM_DQ13+ (io), T17 DRAM_DQ12+ (io), U16 DRAM_DQ15+ (io), U17 DRAM_DQ14+ (io)
part C pins: D3 RGMII_CLK25M+ (out), E1 RGMII_MDIO+ (io), E2 RGMII_MDC+ (out), E3 RGMII_RXC+ (in), E4 GND (power), F1 RGMII_TXD2+ (out), F2 RGMII_TXD3+ (out), F3 RGMII_RXD0+ (in), F4 RGMII_RXCTL+ (in), F5 VDD33_25_RGMIIIO+ (power), G1 RGMII_TXD0+ (out), G2 RGMII_TXD1+ (out), G3 RGMII_RXD2+ (in), G4 RGMII_RXD1+ (in), H1 RGMII_TXCTL+ (out), H2 RGMII_TXC+ (in), H3 GND (power), H4 RGMII_RXD3+ (in), J1 MDI_RP_P0+ (io), J2 MDI_RN_P0+ (io), J3 MDI_TP_P0+ (io), J4 MDI_TN_P0+ (io), J5 VDD10A_EPHY+ (power), K1 MDI_TP_P1+ (io), K2 MDI_TN_P1+ (io), K3 MDI_RP_P1+ (io), K4 MDI_RN_P1+ (io), K5 VDD10A_EPHY+ (power), L1 GND (power), L2 EPHY_RTSET+, L3 MDI_RP_P2+ (io), L4 MDI_RN_P2+ (io), L5 VDD33A_EPHY+ (power), M1 MDI_TP_P2+ (io), M2 MDI_TN_P2+ (io), M3 MDI_TP_P3+ (io), M4 MDI_TN_P3+ (io), M5 VDD33A_EPHY+ (power), N1 MDI_RP_P3+ (io), N2 MDI_RN_P3+ (io), N3 MDI_RN_P4+ (io), N4 MDI_RP_P4+ (io), N5 GND (power), P1 MDI_TN_P4+ (io), P2 MDI_TP_P4+ (io)
part D pins: N9 VDD10_PCIEPHY1 (power), N10 VDD10_PCIEPHY0 (power), P6 VDD25A_PLL+ (power), P7 VDD25A_PCIE (power), P8 VDD25A_PCIEPHY0+ (power), P9 VDD25A_PCIEPHY1+ (power), P11 PCIE1_RXM+ (in), R6 VSSA_PLL+ (power), R7 PCIE1_REFCLK_P+ (out), R8 PCIE1_REFCLK_M+ (out), R9 PCIE1_RTSET+, R11 PCIE1_RXP+ (in), T6 PCIE_RST_N+ (out), T7 PCIE0_REFCLK_M+ (out), T8 PCIE0_TXP+ (out), T9 PCIE0_RXM+ (in), T11 PCIE1_TXP+ (out), U6 PCIE0_RTSET+, U7 PCIE0_REFCLK_P+ (out), U8 PCIE0_TXM+ (out), U9 PCIE0_RXP+ (in), U11 PCIE1_TXM+ (out)
part E pins: E7 VDD33+ (power), E9 VDD10_CORE (power), E10 VDD10_CORE (power), E11 VDD10_CORE (power), E12 VDD10_CORE (power), E13 VDD10_CORE (power), F6 GND (power), F7 GND (power), F8 GND (power), F9 GND (power), F10 GND (power), F11 GND (power), F12 GND (power), F13 VDD10_CORE (power), G5 VDD10_CORE (power), G6 GND (power), G7 GND (power), G8 GND (power), G9 GND (power), G10 GND (power), G11 GND (power), G12 GND (power), G13 VDD10_CORE (power), H5 VDD10_CORE (power), H6 GND (power), H7 GND (power), H8 GND (power), H9 GND (power), H10 GND (power), H11 GND (power), H12 GND (power), H13 VDD10_CORE (power), J6 GND (power), J7 GND (power), J8 GND (power), J9 GND (power), J10 GND (power), J11 GND (power), J12 GND (power), J13 VDD10_CORE (power), K6 GND (power), K7 GND (power), K8 GND (power), K9 GND (power), K10 GND (power), K11 GND (power), K12 GND (power), K13 VDD10_CORE (power), L6 GND (power), L7 GND (power), L8 GND (power), L9 GND (power), L10 GND (power), L11 GND (power), L12 GND (power), L13 VDD10_CORE (power), M6 GND (power), M7 GND (power), M8 GND (power), M9 GND (power), M10 GND (power), M11 GND (power), M12 GND (power), M13 VDD10_CORE (power), N6 VDD33+ (power), N7 VDD10_CORE (power), N8 VDD10_CORE (power), N11 VDD10_CORE (power), N12 VDD10_CORE (power), N13 VDD33+ (power), P3 GND (power), P12 VDD33+ (power), R3 RESET_N+ (in)
part F pins: A1 DCDC_V33D+ (power), A2 DCDC_LX+ (out), A3 DCDC_LX+ (out), B1 DCDC_V33A+ (power), B2 DCDC_FB+ (in), B4 DCDC_PGND (power), C1 LDO_V25A_OUT+ (power), C2 DCDC_COMP+, C3 GND (power)
part G pins: A4 SPI_CS0_N+ (out), A5 SPI_SCLK+ (out), B3 SPI_MISO+, B5 SPI_MOSI+, B8 GPIO27+I2S_SCLK, C5 GPIO3+SPI_WP_N, C6 GPIO28+SPI_CS2_N/UAR2_RTS_N, C7 GPIO25+I2S_SDO/SGPIO_RCLK, C8 GPIO26+I2S_WS/SGPIO_DATA, C10 GPIO22+PCM_CLK, C11 GPIO23+PCM_FS, D1 GPIO0+I2C_SCL, D2 GPIO1+I2C_SDA, D5 GPIO2+SPI_CS1_N, D6 GPIO5+SPI_HOLD_N, D7 GPIO29+SPI_CS3_N/UART2_CTS_N, D8 GPIO20+PCM_TXD, D10 GPIO24+I2S_SDI/SGPIO_SCLK, D11 GPIO21+PCM_RXD, J14 NFD_RBN+, J15 NFD_CS_N+, K14 NFD_ALE+, K15 NFD_WP+, L14 NFD_CLE+, L15 NFD_WE_N+, M14 NFD_RE_N+, M15 GPIO19+NFD_DATA7, N14 GPIO18+NFD_DATA6, N15 GPIO15+NFD_DATA3, P4 GPIO4+, P13 GPIO14+NFD_DATA2, P14 GPIO12+NFD_DATA0, P15 GPIO16+NFD_DATA4, R12 GPIO30+UART2_TXD/SPI_CS4_N, R13 GPIO31+UART2_RXD/SPI_CS5_N, R14 GPIO13+NFD_DATA1, R15 GPIO17+NFD_DATA5, T3 XOUT+ (out), T12 EPHY_LED3+GPO10/JTAG_TCLK, T13 GPIO6+, T14 EPHY_LED0+GPO7/JTAG_TDO, T15 UART_TXD+ (out), U3 XIN+ (in), U12 EPHY_LED4+GPIO11/JTAG_RST_N, U13 EPHY_LED2+GPO9/JTAG_TMS, U14 EPHY_LED1+GPO8/JTAG_TDI, U15 UART_RXD+ (in)
part H pins: A6 USB_DM1+ (io), A7 USB_DP0+ (io), A8 USB_RTSET+, B6 USB_DP1+ (io), B7 USB_DM0+ (io), E6 USB_ANALOGTEST+, E8 VDD33A_USBPHY+ (power)
part A text: RT63368_AFE_GPIO
part B text: RT63368_DDR_DRAM
part C text: RT63368_EPHY_RGMII
part D text: RT63368_PCIE
part E text: RT63368_PWR
part F text: RT63368_BUCK
part G text: RT63368_SPI_GPIO
part H text: RT63368_USB

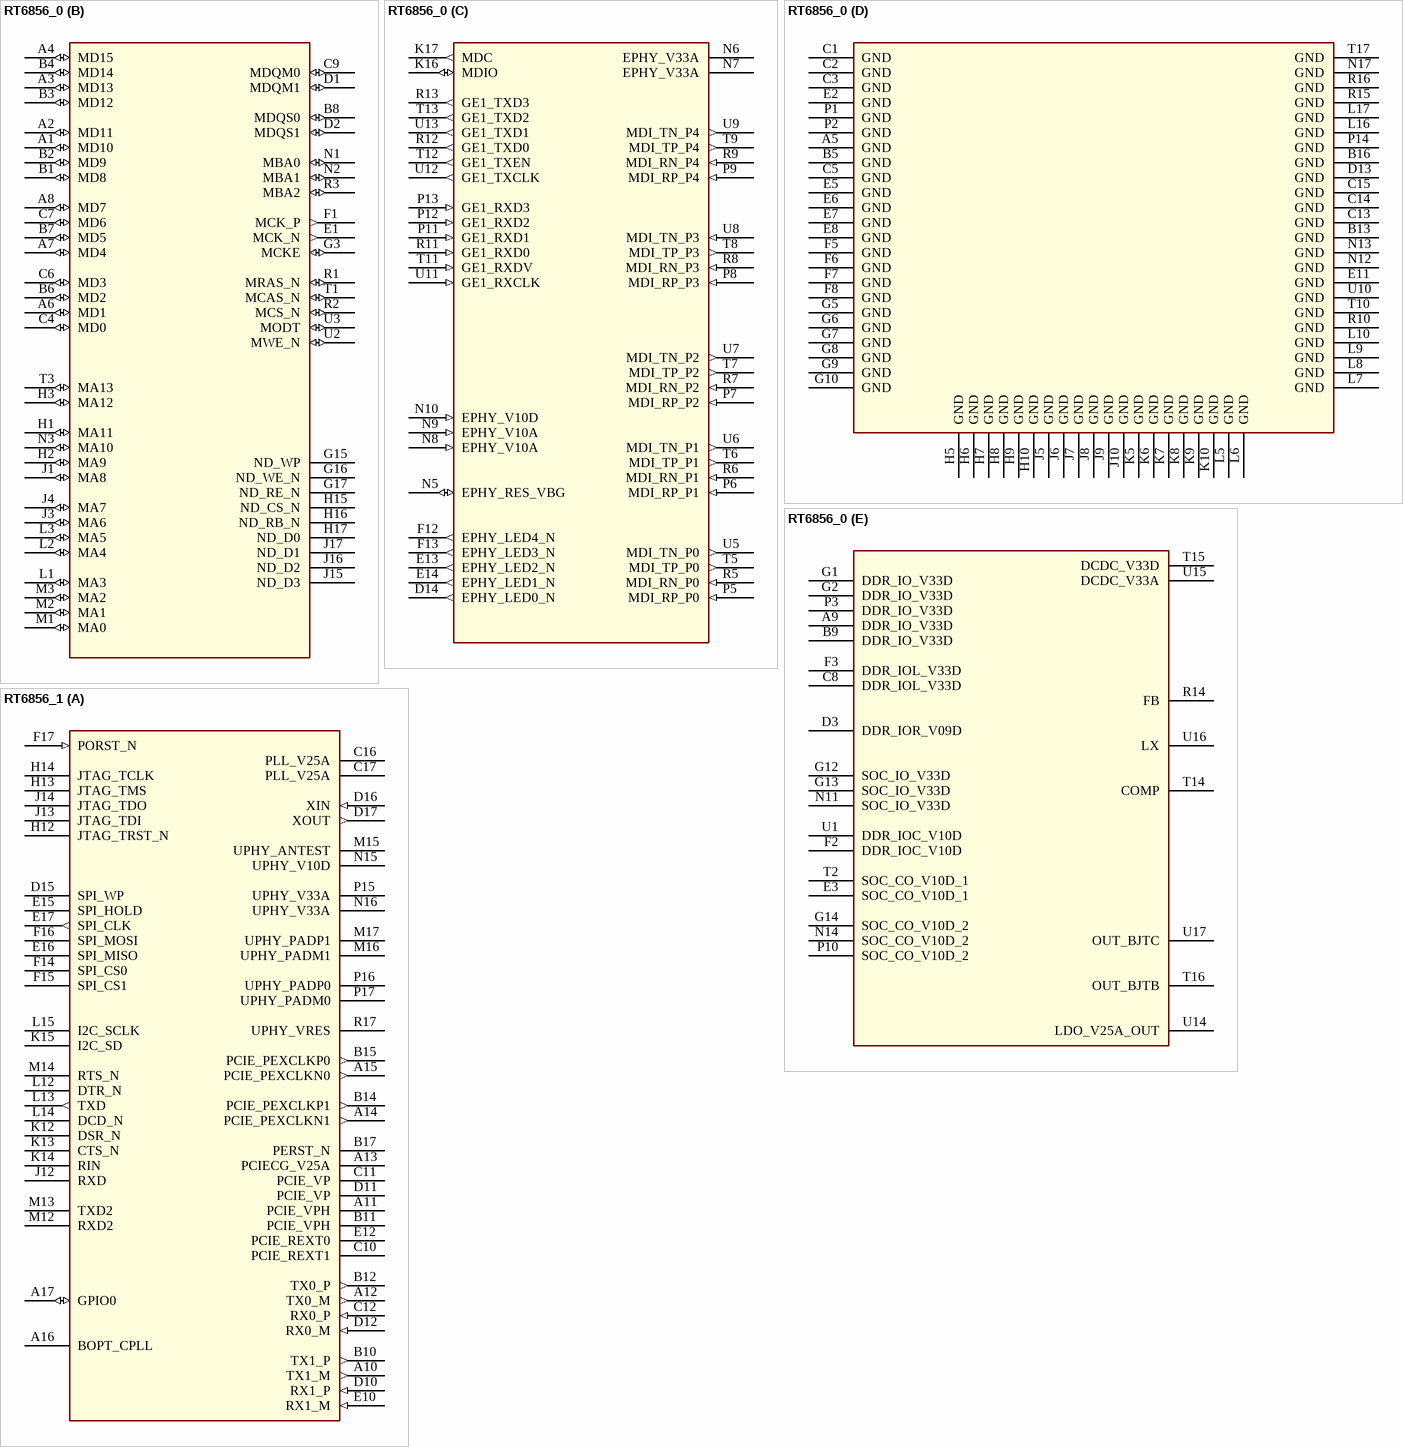
[diagram p121: symbols RT6856_0 to RT6856_1]

## RT6856_0
designator U?
footprint TFBGA289
part A pins: A10 TX1_M (out), A11 PCIE_VPH (power), A12 TX0_M (out), A13 PCIECG_V25A, A14 PCIE_PEXCLKN1 (out), A15 PCIE_PEXCLKN0 (out), A16 BOPT_CPLL, A17 GPIO0 (io), B10 TX1_P (out), B11 PCIE_VPH (power), B12 TX0_P (out), B14 PCIE_PEXCLKP1 (out), B15 PCIE_PEXCLKP0 (out), B17 PERST_N, C10 PCIE_REXT1, C11 PCIE_VP (power), C12 RX0_P (in), C16 PLL_V25A (power), C17 PLL_V25A (power), D10 RX1_P (in), D11 PCIE_VP (power), D12 RX0_M (in), D15 SPI_WP, D16 XIN (in), D17 XOUT (out), E10 RX1_M (in), E12 PCIE_REXT0, E15 SPI_HOLD, E16 SPI_MISO, E17 SPI_CLK (out), F14 SPI_CS0, F15 SPI_CS1, F16 SPI_MOSI, F17 PORST_N (in), H12 JTAG_TRST_N, H13 JTAG_TMS, H14 JTAG_TCLK, J12 RXD, J13 JTAG_TDI, J14 JTAG_TDO, K12 DSR_N, K13 CTS_N, K14 RIN, K15 I2C_SD, L12 DTR_N, L13 TXD (out), L14 DCD_N, L15 I2C_SCLK, M12 RXD2, M13 TXD2, M14 RTS_N, M15 UPHY_ANTEST, M16 UPHY_PADM1, M17 UPHY_PADP1, N15 UPHY_V10D (power), N16 UPHY_V33A (power), P15 UPHY_V33A (power), P16 UPHY_PADP0, P17 UPHY_PADM0, R17 UPHY_VRES
part B pins: A1 MD10 (io), A2 MD11 (io), A3 MD13 (io), A4 MD15 (io), A6 MD1 (io), A7 MD4 (io), A8 MD7 (io), B1 MD8 (io), B2 MD9 (io), B3 MD12 (io), B4 MD14 (io), B6 MD2 (io), B7 MD5 (io), B8 MDQS0 (io), C4 MD0 (io), C6 MD3 (io), C7 MD6 (io), C9 MDQM0 (io), D1 MDQM1 (io), D2 MDQS1 (io), E1 MCK_N (out), F1 MCK_P (out), G3 MCKE (io), G15 ND_WP, G16 ND_WE_N, G17 ND_RE_N, H1 MA11 (io), H2 MA9 (io), H3 MA12 (io), H15 ND_CS_N, H16 ND_RB_N, H17 ND_D0, J1 MA8 (io), J3 MA6 (io), J4 MA7 (io), J15 ND_D3, J16 ND_D2, J17 ND_D1, L1 MA3 (io), L2 MA4 (io), L3 MA5 (io), M1 MA0 (io), M2 MA1 (io), M3 MA2 (io), N1 MBA0 (io), N2 MBA1 (io), N3 MA10 (io), R1 MRAS_N (io), R2 MCS_N (io), R3 MBA2 (io), T1 MCAS_N (io), T3 MA13 (io), U2 MWE_N (io), U3 MODT (io)
part C pins: D14 EPHY_LED0_N (out), E13 EPHY_LED2_N (out), E14 EPHY_LED1_N (out), F12 EPHY_LED4_N (out), F13 EPHY_LED3_N (out), K16 MDIO (io), K17 MDC (out), N5 EPHY_RES_VBG (io), N6 EPHY_V33A (power), N7 EPHY_V33A (power), N8 EPHY_V10A (in), N9 EPHY_V10A (in), N10 EPHY_V10D (in), P5 MDI_RP_P0 (in), P6 MDI_RP_P1 (in), P7 MDI_RP_P2 (in), P8 MDI_RP_P3 (in), P9 MDI_RP_P4 (in), P11 GE1_RXD1 (in), P12 GE1_RXD2 (in), P13 GE1_RXD3 (in), R5 MDI_RN_P0 (in), R6 MDI_RN_P1 (in), R7 MDI_RN_P2 (in), R8 MDI_RN_P3 (in), R9 MDI_RN_P4 (in), R11 GE1_RXD0 (in), R12 GE1_TXD0 (out), R13 GE1_TXD3 (out), T5 MDI_TP_P0 (out), T6 MDI_TP_P1 (out), T7 MDI_TP_P2 (out), T8 MDI_TP_P3 (out), T9 MDI_TP_P4 (out), T11 GE1_RXDV (in), T12 GE1_TXEN (out), T13 GE1_TXD2 (out), U5 MDI_TN_P0 (out), U6 MDI_TN_P1 (out), U7 MDI_TN_P2 (out), U8 MDI_TN_P3 (in), U9 MDI_TN_P4 (out), U11 GE1_RXCLK (in), U12 GE1_TXCLK (out), U13 GE1_TXD1 (out)
part D pins: A5 GND (power), B5 GND (power), B13 GND (power), B16 GND (power), C1 GND (power), C2 GND (power), C3 GND (power), C5 GND (power), C13 GND (power), C14 GND (power), C15 GND (power), D13 GND (power), E2 GND (power), E5 GND (power), E6 GND (power), E7 GND (power), E8 GND (power), E11 GND (power), F5 GND (power), F6 GND (power), F7 GND (power), F8 GND (power), G5 GND (power), G6 GND (power), G7 GND (power), G8 GND (power), G9 GND (power), G10 GND (power), H5 GND (power), H6 GND (power), H7 GND (power), H8 GND (power), H9 GND (power), H10 GND (power), J5 GND (power), J6 GND (power), J7 GND (power), J8 GND (power), J9 GND (power), J10 GND (power), K5 GND (power), K6 GND (power), K7 GND (power), K8 GND (power), K9 GND (power), K10 GND (power), L5 GND (power), L6 GND (power), L7 GND (power), L8 GND (power), L9 GND (power), L10 GND (power), L16 GND (power), L17 GND (power), N12 GND (power), N13 GND (power), N17 GND (power), P1 GND (power), P2 GND (power), P14 GND (power), R10 GND (power), R15 GND (power), R16 GND (power), T10 GND (power), T17 GND (power), U10 GND (power)
part E pins: A9 DDR_IO_V33D (power), B9 DDR_IO_V33D (power), C8 DDR_IOL_V33D (power), D3 DDR_IOR_V09D (power), E3 SOC_CO_V10D_1 (power), F2 DDR_IOC_V10D (power), F3 DDR_IOL_V33D (power), G1 DDR_IO_V33D (power), G2 DDR_IO_V33D (power), G12 SOC_IO_V33D (power), G13 SOC_IO_V33D (power), G14 SOC_CO_V10D_2 (power), N11 SOC_IO_V33D (power), N14 SOC_CO_V10D_2 (power), P3 DDR_IO_V33D (power), P10 SOC_CO_V10D_2 (power), R14 FB, T2 SOC_CO_V10D_1 (power), T14 COMP, T15 DCDC_V33D (power), T16 OUT_BJTB, U1 DDR_IOC_V10D (power), U14 LDO_V25A_OUT (power), U15 DCDC_V33A (power), U16 LX, U17 OUT_BJTC

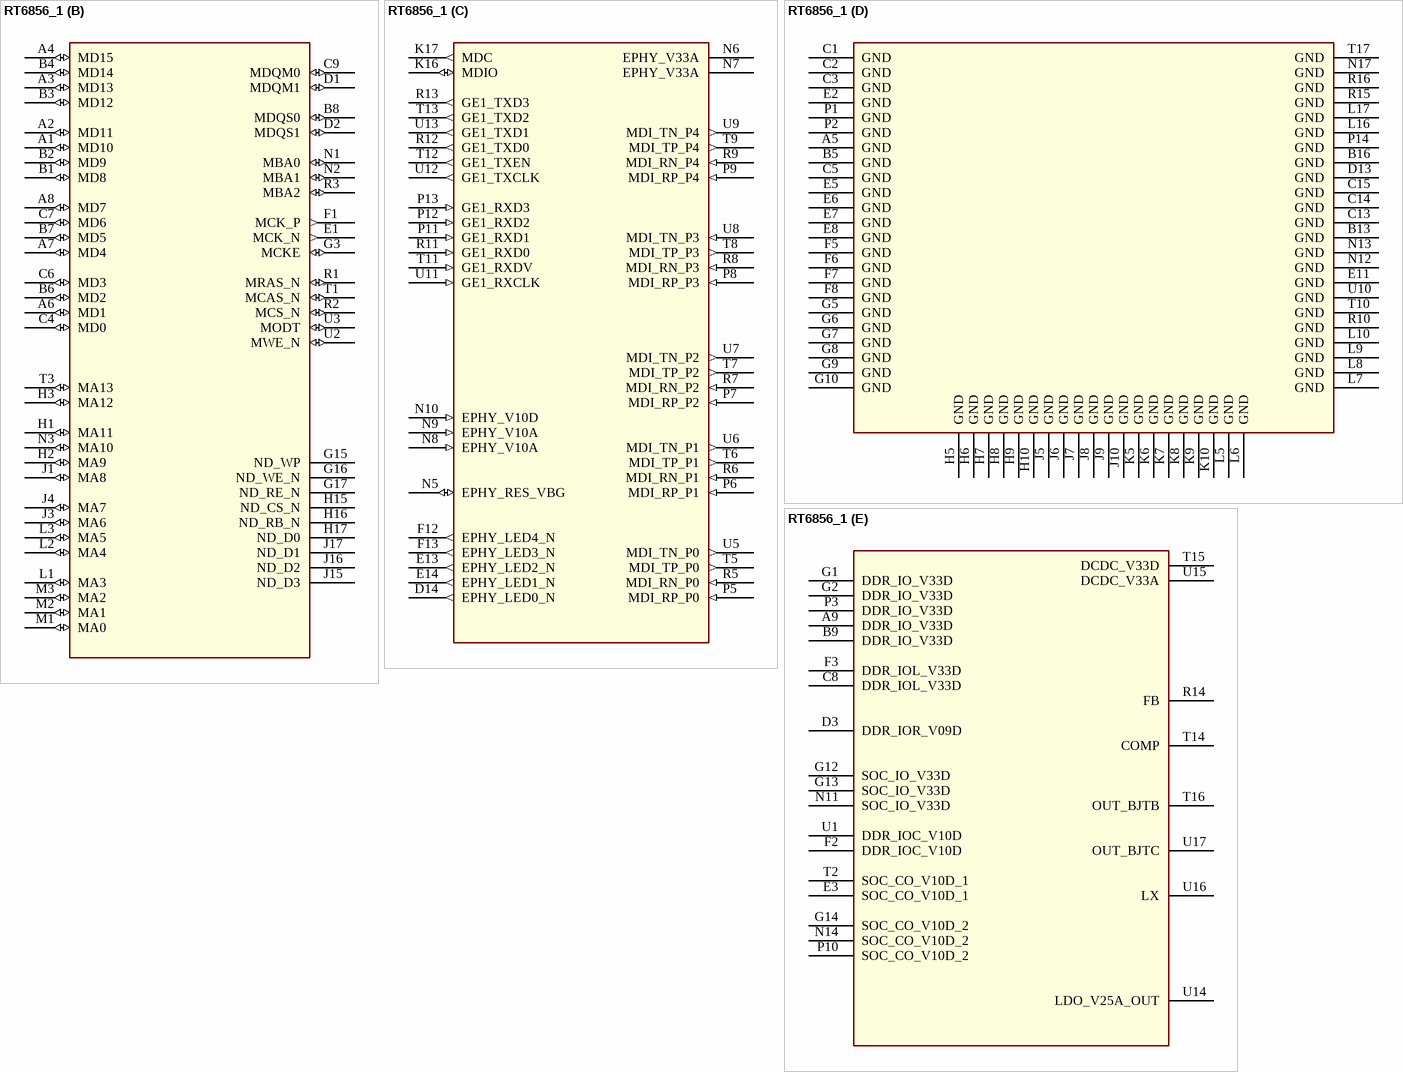
[diagram p122: symbol RT6856_1]

## RT6856_1
designator U?
footprint TFBGA289
part A pins: A10 TX1_M (out), A11 PCIE_VPH (power), A12 TX0_M (out), A13 PCIECG_V25A, A14 PCIE_PEXCLKN1 (out), A15 PCIE_PEXCLKN0 (out), A16 BOPT_CPLL, A17 GPIO0 (io), B10 TX1_P (out), B11 PCIE_VPH (power), B12 TX0_P (out), B14 PCIE_PEXCLKP1 (out), B15 PCIE_PEXCLKP0 (out), B17 PERST_N, C10 PCIE_REXT1, C11 PCIE_VP (power), C12 RX0_P (in), C16 PLL_V25A (power), C17 PLL_V25A (power), D10 RX1_P (in), D11 PCIE_VP (power), D12 RX0_M (in), D15 SPI_WP, D16 XIN (in), D17 XOUT (out), E10 RX1_M (in), E12 PCIE_REXT0, E15 SPI_HOLD, E16 SPI_MISO, E17 SPI_CLK (out), F14 SPI_CS0, F15 SPI_CS1, F16 SPI_MOSI, F17 PORST_N (in), H12 JTAG_TRST_N, H13 JTAG_TMS, H14 JTAG_TCLK, J12 RXD, J13 JTAG_TDI, J14 JTAG_TDO, K12 DSR_N, K13 CTS_N, K14 RIN, K15 I2C_SD, L12 DTR_N, L13 TXD (out), L14 DCD_N, L15 I2C_SCLK, M12 RXD2, M13 TXD2, M14 RTS_N, M15 UPHY_ANTEST, M16 UPHY_PADM1, M17 UPHY_PADP1, N15 UPHY_V10D (power), N16 UPHY_V33A (power), P15 UPHY_V33A (power), P16 UPHY_PADP0, P17 UPHY_PADM0, R17 UPHY_VRES
part B pins: A1 MD10 (io), A2 MD11 (io), A3 MD13 (io), A4 MD15 (io), A6 MD1 (io), A7 MD4 (io), A8 MD7 (io), B1 MD8 (io), B2 MD9 (io), B3 MD12 (io), B4 MD14 (io), B6 MD2 (io), B7 MD5 (io), B8 MDQS0 (io), C4 MD0 (io), C6 MD3 (io), C7 MD6 (io), C9 MDQM0 (io), D1 MDQM1 (io), D2 MDQS1 (io), E1 MCK_N (out), F1 MCK_P (out), G3 MCKE (io), G15 ND_WP, G16 ND_WE_N, G17 ND_RE_N, H1 MA11 (io), H2 MA9 (io), H3 MA12 (io), H15 ND_CS_N, H16 ND_RB_N, H17 ND_D0, J1 MA8 (io), J3 MA6 (io), J4 MA7 (io), J15 ND_D3, J16 ND_D2, J17 ND_D1, L1 MA3 (io), L2 MA4 (io), L3 MA5 (io), M1 MA0 (io), M2 MA1 (io), M3 MA2 (io), N1 MBA0 (io), N2 MBA1 (io), N3 MA10 (io), R1 MRAS_N (io), R2 MCS_N (io), R3 MBA2 (io), T1 MCAS_N (io), T3 MA13 (io), U2 MWE_N (io), U3 MODT (io)
part C pins: D14 EPHY_LED0_N (out), E13 EPHY_LED2_N (out), E14 EPHY_LED1_N (out), F12 EPHY_LED4_N (out), F13 EPHY_LED3_N (out), K16 MDIO (io), K17 MDC (out), N5 EPHY_RES_VBG (io), N6 EPHY_V33A (power), N7 EPHY_V33A (power), N8 EPHY_V10A (in), N9 EPHY_V10A (in), N10 EPHY_V10D (in), P5 MDI_RP_P0 (in), P6 MDI_RP_P1 (in), P7 MDI_RP_P2 (in), P8 MDI_RP_P3 (in), P9 MDI_RP_P4 (in), P11 GE1_RXD1 (in), P12 GE1_RXD2 (in), P13 GE1_RXD3 (in), R5 MDI_RN_P0 (in), R6 MDI_RN_P1 (in), R7 MDI_RN_P2 (in), R8 MDI_RN_P3 (in), R9 MDI_RN_P4 (in), R11 GE1_RXD0 (in), R12 GE1_TXD0 (out), R13 GE1_TXD3 (out), T5 MDI_TP_P0 (out), T6 MDI_TP_P1 (out), T7 MDI_TP_P2 (out), T8 MDI_TP_P3 (out), T9 MDI_TP_P4 (out), T11 GE1_RXDV (in), T12 GE1_TXEN (out), T13 GE1_TXD2 (out), U5 MDI_TN_P0 (out), U6 MDI_TN_P1 (out), U7 MDI_TN_P2 (out), U8 MDI_TN_P3 (in), U9 MDI_TN_P4 (out), U11 GE1_RXCLK (in), U12 GE1_TXCLK (out), U13 GE1_TXD1 (out)
part D pins: A5 GND (power), B5 GND (power), B13 GND (power), B16 GND (power), C1 GND (power), C2 GND (power), C3 GND (power), C5 GND (power), C13 GND (power), C14 GND (power), C15 GND (power), D13 GND (power), E2 GND (power), E5 GND (power), E6 GND (power), E7 GND (power), E8 GND (power), E11 GND (power), F5 GND (power), F6 GND (power), F7 GND (power), F8 GND (power), G5 GND (power), G6 GND (power), G7 GND (power), G8 GND (power), G9 GND (power), G10 GND (power), H5 GND (power), H6 GND (power), H7 GND (power), H8 GND (power), H9 GND (power), H10 GND (power), J5 GND (power), J6 GND (power), J7 GND (power), J8 GND (power), J9 GND (power), J10 GND (power), K5 GND (power), K6 GND (power), K7 GND (power), K8 GND (power), K9 GND (power), K10 GND (power), L5 GND (power), L6 GND (power), L7 GND (power), L8 GND (power), L9 GND (power), L10 GND (power), L16 GND (power), L17 GND (power), N12 GND (power), N13 GND (power), N17 GND (power), P1 GND (power), P2 GND (power), P14 GND (power), R10 GND (power), R15 GND (power), R16 GND (power), T10 GND (power), T17 GND (power), U10 GND (power)
part E pins: A9 DDR_IO_V33D (power), B9 DDR_IO_V33D (power), C8 DDR_IOL_V33D (power), D3 DDR_IOR_V09D (power), E3 SOC_CO_V10D_1 (power), F2 DDR_IOC_V10D (power), F3 DDR_IOL_V33D (power), G1 DDR_IO_V33D (power), G2 DDR_IO_V33D (power), G12 SOC_IO_V33D (power), G13 SOC_IO_V33D (power), G14 SOC_CO_V10D_2 (power), N11 SOC_IO_V33D (power), N14 SOC_CO_V10D_2 (power), P3 DDR_IO_V33D (power), P10 SOC_CO_V10D_2 (power), R14 FB, T2 SOC_CO_V10D_1 (power), T14 COMP, T15 DCDC_V33D (power), T16 OUT_BJTB, U1 DDR_IOC_V10D (power), U14 LDO_V25A_OUT, U15 DCDC_V33A (power), U16 LX, U17 OUT_BJTC

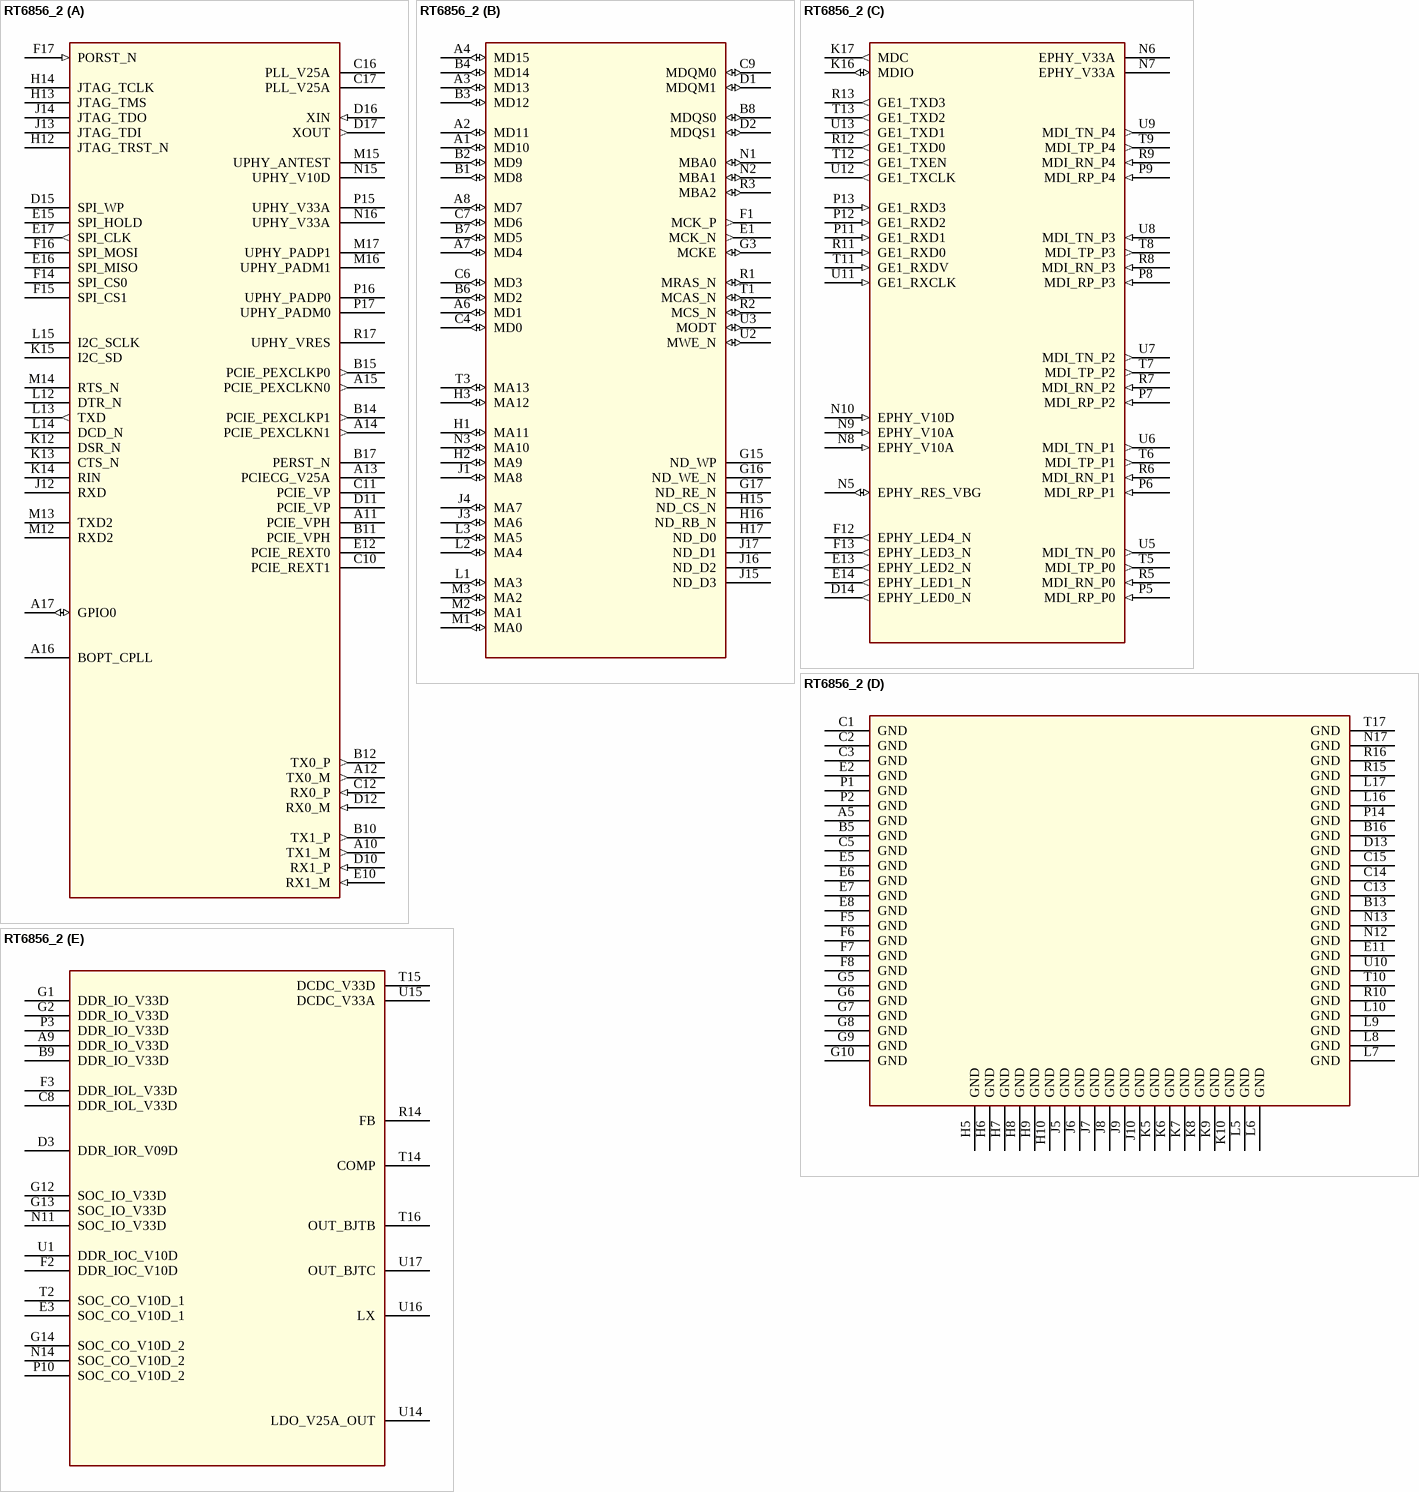
[diagram p123: symbol RT6856_2]

## RT6856_2
designator U?
footprint TFBGA289
part A pins: A10 TX1_M (out), A11 PCIE_VPH (power), A12 TX0_M (out), A13 PCIECG_V25A, A14 PCIE_PEXCLKN1 (out), A15 PCIE_PEXCLKN0 (out), A16 BOPT_CPLL, A17 GPIO0 (io), B10 TX1_P (out), B11 PCIE_VPH (power), B12 TX0_P (out), B14 PCIE_PEXCLKP1 (out), B15 PCIE_PEXCLKP0 (out), B17 PERST_N, C10 PCIE_REXT1, C11 PCIE_VP (power), C12 RX0_P (in), C16 PLL_V25A (power), C17 PLL_V25A (power), D10 RX1_P (in), D11 PCIE_VP (power), D12 RX0_M (in), D15 SPI_WP, D16 XIN (in), D17 XOUT (out), E10 RX1_M (in), E12 PCIE_REXT0, E15 SPI_HOLD, E16 SPI_MISO, E17 SPI_CLK (out), F14 SPI_CS0, F15 SPI_CS1, F16 SPI_MOSI, F17 PORST_N (in), H12 JTAG_TRST_N, H13 JTAG_TMS, H14 JTAG_TCLK, J12 RXD, J13 JTAG_TDI, J14 JTAG_TDO, K12 DSR_N, K13 CTS_N, K14 RIN, K15 I2C_SD, L12 DTR_N, L13 TXD (out), L14 DCD_N, L15 I2C_SCLK, M12 RXD2, M13 TXD2, M14 RTS_N, M15 UPHY_ANTEST, M16 UPHY_PADM1, M17 UPHY_PADP1, N15 UPHY_V10D (power), N16 UPHY_V33A (power), P15 UPHY_V33A (power), P16 UPHY_PADP0, P17 UPHY_PADM0, R17 UPHY_VRES
part B pins: A1 MD10 (io), A2 MD11 (io), A3 MD13 (io), A4 MD15 (io), A6 MD1 (io), A7 MD4 (io), A8 MD7 (io), B1 MD8 (io), B2 MD9 (io), B3 MD12 (io), B4 MD14 (io), B6 MD2 (io), B7 MD5 (io), B8 MDQS0 (io), C4 MD0 (io), C6 MD3 (io), C7 MD6 (io), C9 MDQM0 (io), D1 MDQM1 (io), D2 MDQS1 (io), E1 MCK_N (out), F1 MCK_P (out), G3 MCKE (io), G15 ND_WP, G16 ND_WE_N, G17 ND_RE_N, H1 MA11 (io), H2 MA9 (io), H3 MA12 (io), H15 ND_CS_N, H16 ND_RB_N, H17 ND_D0, J1 MA8 (io), J3 MA6 (io), J4 MA7 (io), J15 ND_D3, J16 ND_D2, J17 ND_D1, L1 MA3 (io), L2 MA4 (io), L3 MA5 (io), M1 MA0 (io), M2 MA1 (io), M3 MA2 (io), N1 MBA0 (io), N2 MBA1 (io), N3 MA10 (io), R1 MRAS_N (io), R2 MCS_N (io), R3 MBA2 (io), T1 MCAS_N (io), T3 MA13 (io), U2 MWE_N (io), U3 MODT (io)
part C pins: D14 EPHY_LED0_N (out), E13 EPHY_LED2_N (out), E14 EPHY_LED1_N (out), F12 EPHY_LED4_N (out), F13 EPHY_LED3_N (out), K16 MDIO (io), K17 MDC (out), N5 EPHY_RES_VBG (io), N6 EPHY_V33A (power), N7 EPHY_V33A (power), N8 EPHY_V10A (in), N9 EPHY_V10A (in), N10 EPHY_V10D (in), P5 MDI_RP_P0 (in), P6 MDI_RP_P1 (in), P7 MDI_RP_P2 (in), P8 MDI_RP_P3 (in), P9 MDI_RP_P4 (in), P11 GE1_RXD1 (in), P12 GE1_RXD2 (in), P13 GE1_RXD3 (in), R5 MDI_RN_P0 (in), R6 MDI_RN_P1 (in), R7 MDI_RN_P2 (in), R8 MDI_RN_P3 (in), R9 MDI_RN_P4 (in), R11 GE1_RXD0 (in), R12 GE1_TXD0 (out), R13 GE1_TXD3 (out), T5 MDI_TP_P0 (out), T6 MDI_TP_P1 (out), T7 MDI_TP_P2 (out), T8 MDI_TP_P3 (out), T9 MDI_TP_P4 (out), T11 GE1_RXDV (in), T12 GE1_TXEN (out), T13 GE1_TXD2 (out), U5 MDI_TN_P0 (out), U6 MDI_TN_P1 (out), U7 MDI_TN_P2 (out), U8 MDI_TN_P3 (in), U9 MDI_TN_P4 (out), U11 GE1_RXCLK (in), U12 GE1_TXCLK (out), U13 GE1_TXD1 (out)
part D pins: A5 GND (power), B5 GND (power), B13 GND (power), B16 GND (power), C1 GND (power), C2 GND (power), C3 GND (power), C5 GND (power), C13 GND (power), C14 GND (power), C15 GND (power), D13 GND (power), E2 GND (power), E5 GND (power), E6 GND (power), E7 GND (power), E8 GND (power), E11 GND (power), F5 GND (power), F6 GND (power), F7 GND (power), F8 GND (power), G5 GND (power), G6 GND (power), G7 GND (power), G8 GND (power), G9 GND (power), G10 GND (power), H5 GND (power), H6 GND (power), H7 GND (power), H8 GND (power), H9 GND (power), H10 GND (power), J5 GND (power), J6 GND (power), J7 GND (power), J8 GND (power), J9 GND (power), J10 GND (power), K5 GND (power), K6 GND (power), K7 GND (power), K8 GND (power), K9 GND (power), K10 GND (power), L5 GND (power), L6 GND (power), L7 GND (power), L8 GND (power), L9 GND (power), L10 GND (power), L16 GND (power), L17 GND (power), N12 GND (power), N13 GND (power), N17 GND (power), P1 GND (power), P2 GND (power), P14 GND (power), R10 GND (power), R15 GND (power), R16 GND (power), T10 GND (power), T17 GND (power), U10 GND (power)
part E pins: A9 DDR_IO_V33D (power), B9 DDR_IO_V33D (power), C8 DDR_IOL_V33D (power), D3 DDR_IOR_V09D (power), E3 SOC_CO_V10D_1 (power), F2 DDR_IOC_V10D (power), F3 DDR_IOL_V33D (power), G1 DDR_IO_V33D (power), G2 DDR_IO_V33D (power), G12 SOC_IO_V33D (power), G13 SOC_IO_V33D (power), G14 SOC_CO_V10D_2 (power), N11 SOC_IO_V33D (power), N14 SOC_CO_V10D_2 (power), P3 DDR_IO_V33D (power), P10 SOC_CO_V10D_2 (power), R14 FB, T2 SOC_CO_V10D_1 (power), T14 COMP, T15 DCDC_V33D (power), T16 OUT_BJTB, U1 DDR_IOC_V10D (power), U14 LDO_V25A_OUT, U15 DCDC_V33A (power), U16 LX, U17 OUT_BJTC

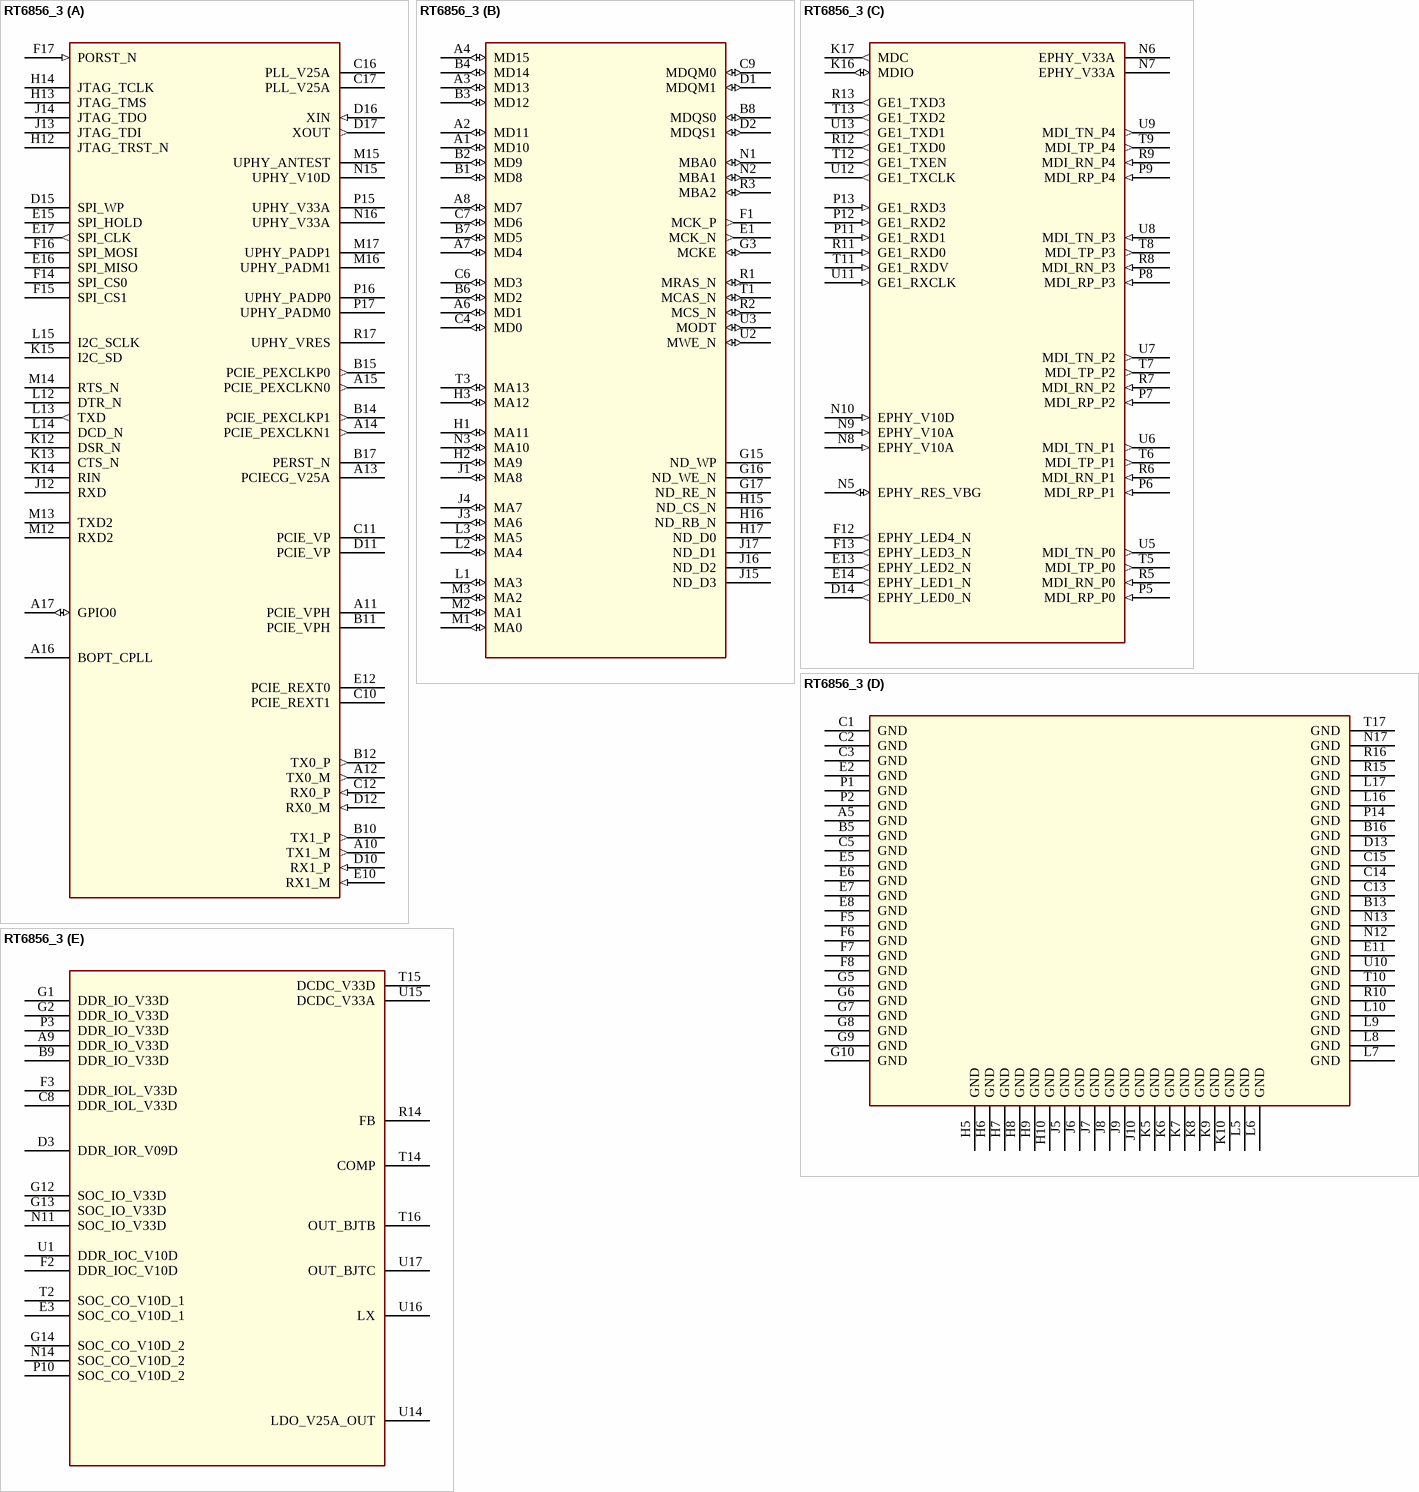
[diagram p124: symbol RT6856_3]

## RT6856_3
designator U?
footprint TFBGA289
part A pins: A10 TX1_M (out), A11 PCIE_VPH (power), A12 TX0_M (out), A13 PCIECG_V25A, A14 PCIE_PEXCLKN1 (out), A15 PCIE_PEXCLKN0 (out), A16 BOPT_CPLL, A17 GPIO0 (io), B10 TX1_P (out), B11 PCIE_VPH (power), B12 TX0_P (out), B14 PCIE_PEXCLKP1 (out), B15 PCIE_PEXCLKP0 (out), B17 PERST_N, C10 PCIE_REXT1, C11 PCIE_VP (power), C12 RX0_P (in), C16 PLL_V25A (power), C17 PLL_V25A (power), D10 RX1_P (in), D11 PCIE_VP (power), D12 RX0_M (in), D15 SPI_WP, D16 XIN (in), D17 XOUT (out), E10 RX1_M (in), E12 PCIE_REXT0, E15 SPI_HOLD, E16 SPI_MISO, E17 SPI_CLK (out), F14 SPI_CS0, F15 SPI_CS1, F16 SPI_MOSI, F17 PORST_N (in), H12 JTAG_TRST_N, H13 JTAG_TMS, H14 JTAG_TCLK, J12 RXD, J13 JTAG_TDI, J14 JTAG_TDO, K12 DSR_N, K13 CTS_N, K14 RIN, K15 I2C_SD, L12 DTR_N, L13 TXD (out), L14 DCD_N, L15 I2C_SCLK, M12 RXD2, M13 TXD2, M14 RTS_N, M15 UPHY_ANTEST, M16 UPHY_PADM1, M17 UPHY_PADP1, N15 UPHY_V10D (power), N16 UPHY_V33A (power), P15 UPHY_V33A (power), P16 UPHY_PADP0, P17 UPHY_PADM0, R17 UPHY_VRES
part B pins: A1 MD10 (io), A2 MD11 (io), A3 MD13 (io), A4 MD15 (io), A6 MD1 (io), A7 MD4 (io), A8 MD7 (io), B1 MD8 (io), B2 MD9 (io), B3 MD12 (io), B4 MD14 (io), B6 MD2 (io), B7 MD5 (io), B8 MDQS0 (io), C4 MD0 (io), C6 MD3 (io), C7 MD6 (io), C9 MDQM0 (io), D1 MDQM1 (io), D2 MDQS1 (io), E1 MCK_N (out), F1 MCK_P (out), G3 MCKE (io), G15 ND_WP, G16 ND_WE_N, G17 ND_RE_N, H1 MA11 (io), H2 MA9 (io), H3 MA12 (io), H15 ND_CS_N, H16 ND_RB_N, H17 ND_D0, J1 MA8 (io), J3 MA6 (io), J4 MA7 (io), J15 ND_D3, J16 ND_D2, J17 ND_D1, L1 MA3 (io), L2 MA4 (io), L3 MA5 (io), M1 MA0 (io), M2 MA1 (io), M3 MA2 (io), N1 MBA0 (io), N2 MBA1 (io), N3 MA10 (io), R1 MRAS_N (io), R2 MCS_N (io), R3 MBA2 (io), T1 MCAS_N (io), T3 MA13 (io), U2 MWE_N (io), U3 MODT (io)
part C pins: D14 EPHY_LED0_N (out), E13 EPHY_LED2_N (out), E14 EPHY_LED1_N (out), F12 EPHY_LED4_N (out), F13 EPHY_LED3_N (out), K16 MDIO (io), K17 MDC (out), N5 EPHY_RES_VBG (io), N6 EPHY_V33A (power), N7 EPHY_V33A (power), N8 EPHY_V10A (in), N9 EPHY_V10A (in), N10 EPHY_V10D (in), P5 MDI_RP_P0 (in), P6 MDI_RP_P1 (in), P7 MDI_RP_P2 (in), P8 MDI_RP_P3 (in), P9 MDI_RP_P4 (in), P11 GE1_RXD1 (in), P12 GE1_RXD2 (in), P13 GE1_RXD3 (in), R5 MDI_RN_P0 (in), R6 MDI_RN_P1 (in), R7 MDI_RN_P2 (in), R8 MDI_RN_P3 (in), R9 MDI_RN_P4 (in), R11 GE1_RXD0 (in), R12 GE1_TXD0 (out), R13 GE1_TXD3 (out), T5 MDI_TP_P0 (out), T6 MDI_TP_P1 (out), T7 MDI_TP_P2 (out), T8 MDI_TP_P3 (out), T9 MDI_TP_P4 (out), T11 GE1_RXDV (in), T12 GE1_TXEN (out), T13 GE1_TXD2 (out), U5 MDI_TN_P0 (out), U6 MDI_TN_P1 (out), U7 MDI_TN_P2 (out), U8 MDI_TN_P3 (in), U9 MDI_TN_P4 (out), U11 GE1_RXCLK (in), U12 GE1_TXCLK (out), U13 GE1_TXD1 (out)
part D pins: A5 GND (power), B5 GND (power), B13 GND (power), B16 GND (power), C1 GND (power), C2 GND (power), C3 GND (power), C5 GND (power), C13 GND (power), C14 GND (power), C15 GND (power), D13 GND (power), E2 GND (power), E5 GND (power), E6 GND (power), E7 GND (power), E8 GND (power), E11 GND (power), F5 GND (power), F6 GND (power), F7 GND (power), F8 GND (power), G5 GND (power), G6 GND (power), G7 GND (power), G8 GND (power), G9 GND (power), G10 GND (power), H5 GND (power), H6 GND (power), H7 GND (power), H8 GND (power), H9 GND (power), H10 GND (power), J5 GND (power), J6 GND (power), J7 GND (power), J8 GND (power), J9 GND (power), J10 GND (power), K5 GND (power), K6 GND (power), K7 GND (power), K8 GND (power), K9 GND (power), K10 GND (power), L5 GND (power), L6 GND (power), L7 GND (power), L8 GND (power), L9 GND (power), L10 GND (power), L16 GND (power), L17 GND (power), N12 GND (power), N13 GND (power), N17 GND (power), P1 GND (power), P2 GND (power), P14 GND (power), R10 GND (power), R15 GND (power), R16 GND (power), T10 GND (power), T17 GND (power), U10 GND (power)
part E pins: A9 DDR_IO_V33D (power), B9 DDR_IO_V33D (power), C8 DDR_IOL_V33D (power), D3 DDR_IOR_V09D (power), E3 SOC_CO_V10D_1 (power), F2 DDR_IOC_V10D (power), F3 DDR_IOL_V33D (power), G1 DDR_IO_V33D (power), G2 DDR_IO_V33D (power), G12 SOC_IO_V33D (power), G13 SOC_IO_V33D (power), G14 SOC_CO_V10D_2 (power), N11 SOC_IO_V33D (power), N14 SOC_CO_V10D_2 (power), P3 DDR_IO_V33D (power), P10 SOC_CO_V10D_2 (power), R14 FB, T2 SOC_CO_V10D_1 (power), T14 COMP, T15 DCDC_V33D (power), T16 OUT_BJTB, U1 DDR_IOC_V10D (power), U14 LDO_V25A_OUT, U15 DCDC_V33A (power), U16 LX, U17 OUT_BJTC

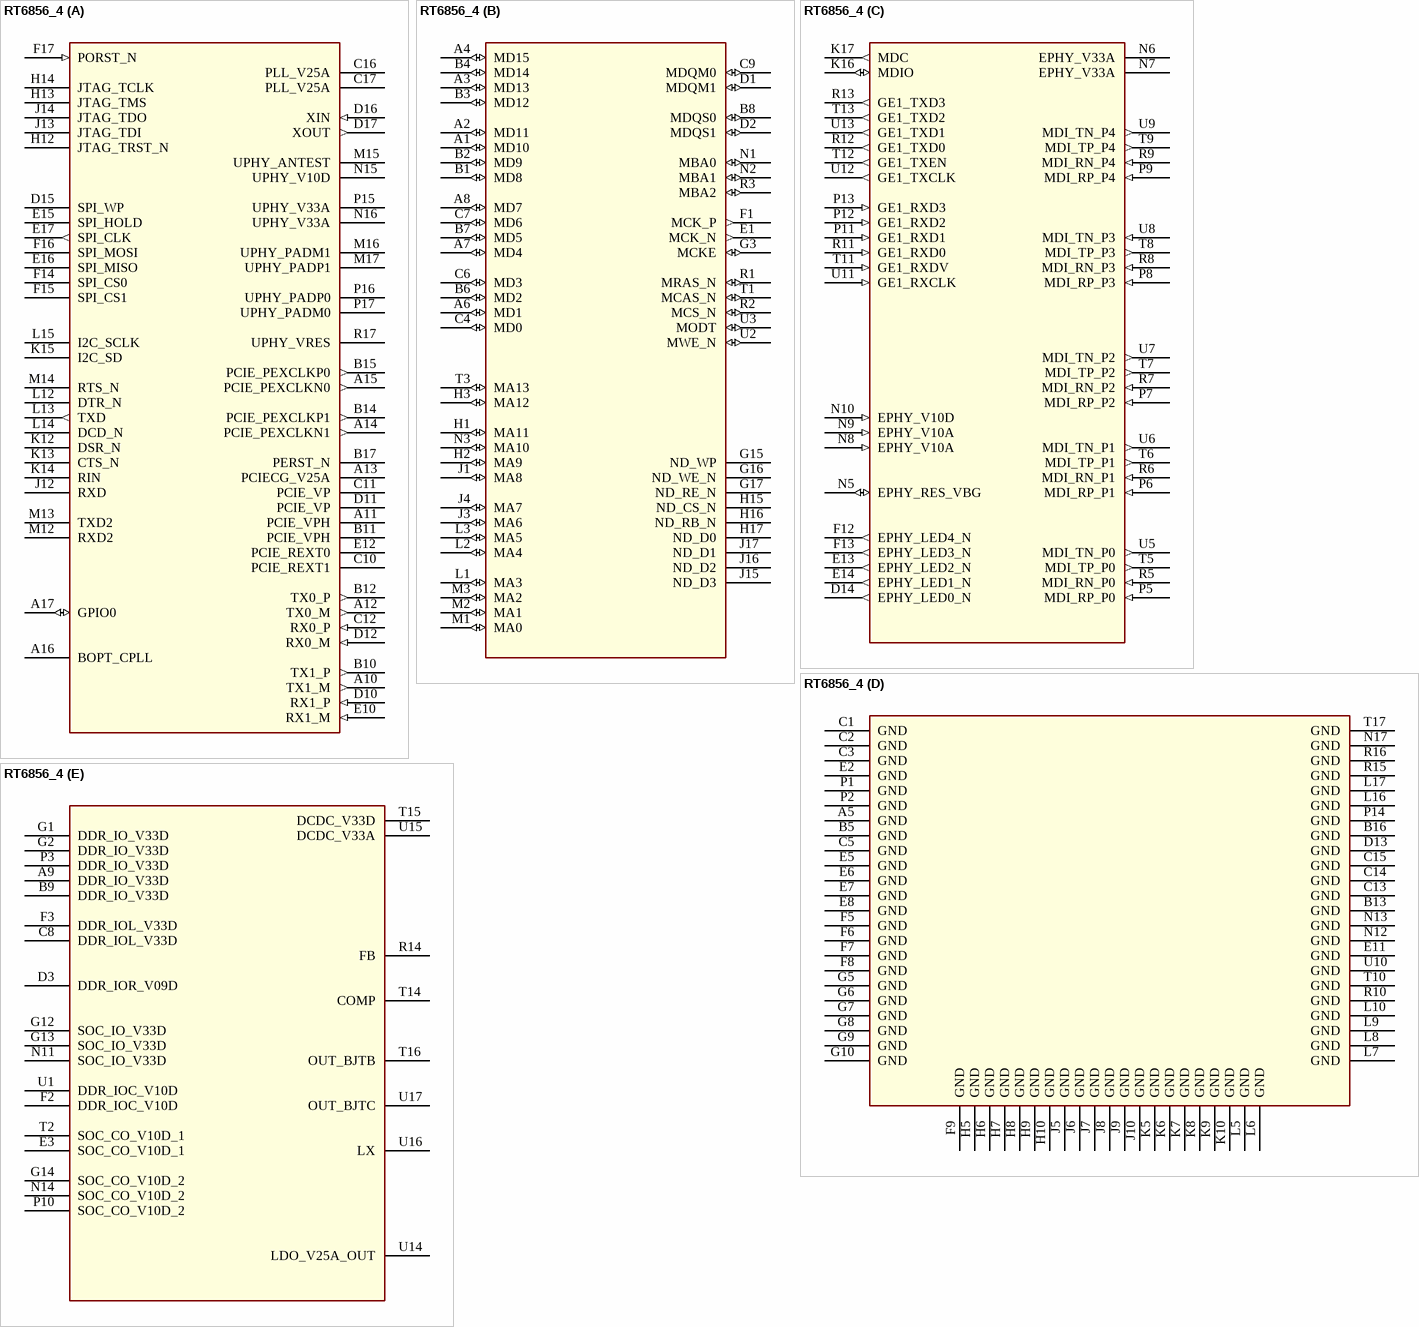
[diagram p125: symbol RT6856_4]